# Altium schematic symbol library Microcontroller tinyAVR.SchLib: 370 symbols (part 4 of 11)
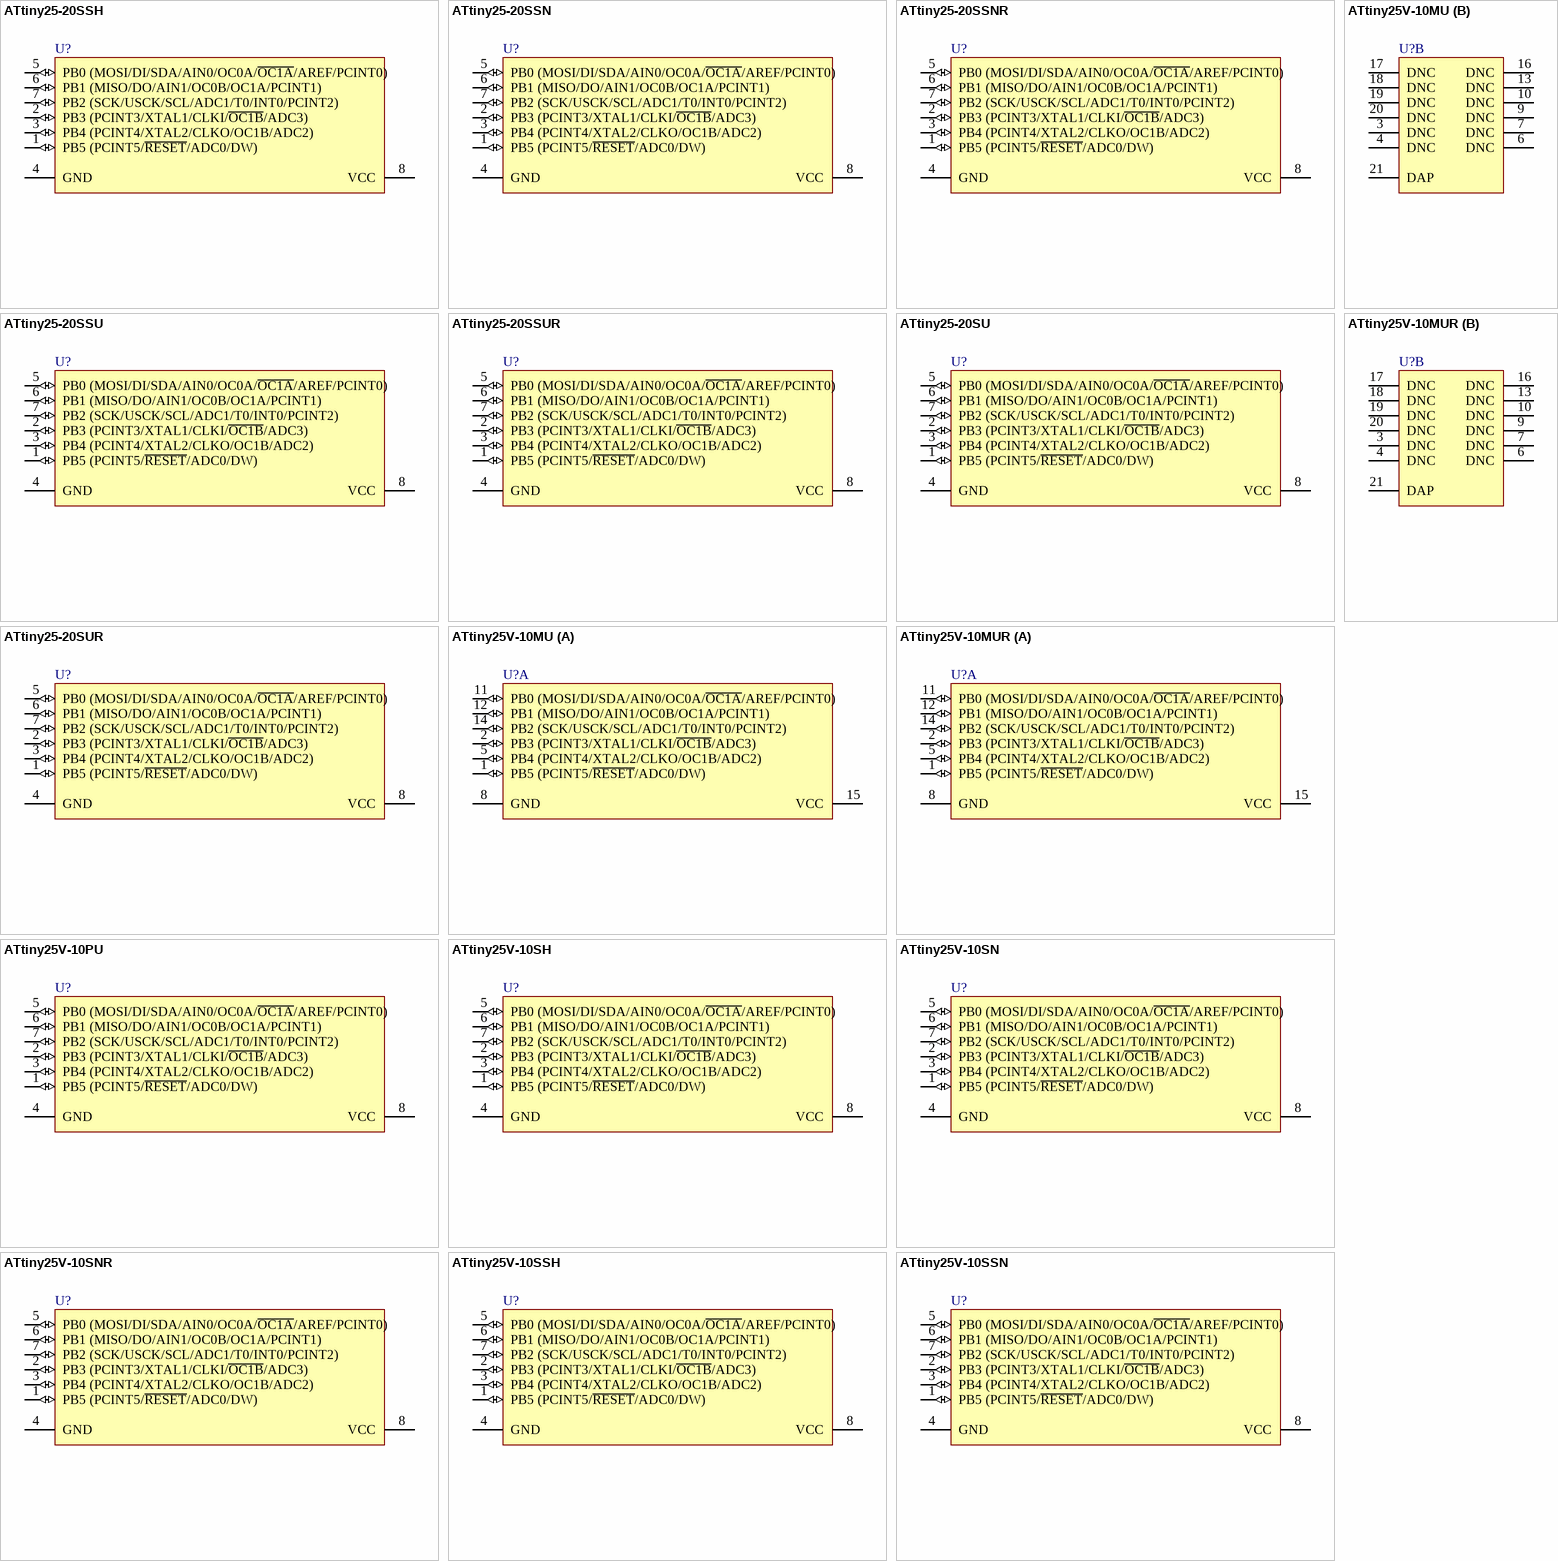
[diagram p29: symbols ATtiny25-20SSH to ATtiny25V-10SSN]

## ATtiny25-20SSU
designator U?
8-bit AVR Microcontroller, 20MHz, 2.7-5.5V, 2KB Flash, 128 Bytes EEPROM, 128 Bytes SRAM, 8-pin SOIC, Industrial Grade (-40°C to 85°C), Pb-Free; DatasheetVersion: revN, Apr-2011; PackageVersion: revA, Oct-2001; PackageReference: S8S1; PackageDescription: 8-Lead (0.150" Wide Body), Plastic Gull Wing Small Outline (JEDEC SOIC); Code_JEDEC: MS-012; Code_IPC: SOIC127P600-8; ComponentLink1Description: Manufacturer URL; ComponentLink1URL: http://www.atmel.com/; ComponentLink2Description: ATtiny25/45/85 Datasheet; ComponentLink2URL: http://www.atmel.com/dyn/resources/prod_documents/doc2586.pdf; ComponentLink3Description: ATtiny25/45/85 Summary; ComponentLink3URL: http://www.atmel.com/dyn/resources/prod_documents/2586S.pdf
footprint S8S1_N (SOIC, 8-Leads, Body 4.9x3.9mm, Pitch 1.27mm, IPC Medium Density)
footprint S8S1_L (SOIC, 8-Leads, Body 4.9x3.9mm, Pitch 1.27mm, IPC High Density)
footprint S8S1_M (SOIC, 8-Leads, Body 4.9x3.9mm, Pitch 1.27mm, IPC Low Density)
pins: 1 PB5 (PCINT5/~{RESET}/ADC0/DW) (io), 2 PB3 (PCINT3/XTAL1/CLKI/~{OC1B}/ADC3) (io), 3 PB4 (PCINT4/XTAL2/CLKO/OC1B/ADC2) (io), 4 GND (power), 5 PB0 (MOSI/DI/SDA/AIN0/OC0A/~{OC1A}/AREF/PCINT0) (io), 6 PB1 (MISO/DO/AIN1/OC0B/OC1A/PCINT1) (io), 7 PB2 (SCK/USCK/SCL/ADC1/T0/INT0/PCINT2) (io), 8 VCC (power)

## ATtiny25-20SSUR
designator U?
8-bit AVR Microcontroller, 20MHz, 2.7-5.5V, 2KB Flash, 128 Bytes EEPROM, 128 Bytes SRAM, 8-pin SOIC, Industrial Grade (-40°C to 85°C), Pb-Free, Reel; DatasheetVersion: revN, Apr-2011; PackageVersion: revA, Oct-2001; PackageReference: S8S1; PackageDescription: 8-Lead (0.150" Wide Body), Plastic Gull Wing Small Outline (JEDEC SOIC); Code_JEDEC: MS-012; Code_IPC: SOIC127P600-8; ComponentLink1Description: Manufacturer URL; ComponentLink1URL: http://www.atmel.com/; ComponentLink2Description: ATtiny25/45/85 Datasheet; ComponentLink2URL: http://www.atmel.com/dyn/resources/prod_documents/doc2586.pdf; ComponentLink3Description: ATtiny25/45/85 Summary; ComponentLink3URL: http://www.atmel.com/dyn/resources/prod_documents/2586S.pdf
footprint S8S1_N (SOIC, 8-Leads, Body 4.9x3.9mm, Pitch 1.27mm, IPC Medium Density)
footprint S8S1_L (SOIC, 8-Leads, Body 4.9x3.9mm, Pitch 1.27mm, IPC High Density)
footprint S8S1_M (SOIC, 8-Leads, Body 4.9x3.9mm, Pitch 1.27mm, IPC Low Density)
pins: 1 PB5 (PCINT5/~{RESET}/ADC0/DW) (io), 2 PB3 (PCINT3/XTAL1/CLKI/~{OC1B}/ADC3) (io), 3 PB4 (PCINT4/XTAL2/CLKO/OC1B/ADC2) (io), 4 GND (power), 5 PB0 (MOSI/DI/SDA/AIN0/OC0A/~{OC1A}/AREF/PCINT0) (io), 6 PB1 (MISO/DO/AIN1/OC0B/OC1A/PCINT1) (io), 7 PB2 (SCK/USCK/SCL/ADC1/T0/INT0/PCINT2) (io), 8 VCC (power)

## ATtiny25-20SU
designator U?
8-bit AVR Microcontroller, 20MHz, 2.7-5.5V, 2KB Flash, 128 Bytes EEPROM, 128 Bytes SRAM, 8-pin SOP, Industrial Grade (-40°C to 85°C), Pb-Free; DatasheetVersion: revN, Apr-2011; PackageVersion: revF, Apr-2008; PackageReference: 8S2; PackageDescription: 8-Lead, 0.208" Body, Plastic Small Outline Package (EIAJ); ComponentLink1Description: Manufacturer URL; ComponentLink1URL: http://www.atmel.com/; ComponentLink2Description: ATtiny25/45/85 Datasheet; ComponentLink2URL: http://www.atmel.com/dyn/resources/prod_documents/doc2586.pdf; ComponentLink3Description: ATtiny25/45/85 Summary; ComponentLink3URL: http://www.atmel.com/dyn/resources/prod_documents/2586S.pdf
footprint 8S2_N (SOP, 8-Leads, Body 5.3x5.3mm, Pitch 1.27mm, IPC Medium Density)
footprint 8S2_L (SOP, 8-Leads, Body 5.3x5.3mm, Pitch 1.27mm, IPC High Density)
footprint 8S2_M (SOP, 8-Leads, Body 5.3x5.3mm, Pitch 1.27mm, IPC Low Density)
pins: 1 PB5 (PCINT5/~{RESET}/ADC0/DW) (io), 2 PB3 (PCINT3/XTAL1/CLKI/~{OC1B}/ADC3) (io), 3 PB4 (PCINT4/XTAL2/CLKO/OC1B/ADC2) (io), 4 GND (power), 5 PB0 (MOSI/DI/SDA/AIN0/OC0A/~{OC1A}/AREF/PCINT0) (io), 6 PB1 (MISO/DO/AIN1/OC0B/OC1A/PCINT1) (io), 7 PB2 (SCK/USCK/SCL/ADC1/T0/INT0/PCINT2) (io), 8 VCC (power)

## ATtiny25-20SUR
designator U?
8-bit AVR Microcontroller, 20MHz, 2.7-5.5V, 2KB Flash, 128 Bytes EEPROM, 128 Bytes SRAM, 8-pin SOP, Industrial Grade (-40°C to 85°C), Pb-Free, Reel; DatasheetVersion: revN, Apr-2011; PackageVersion: revF, Apr-2008; PackageReference: 8S2; PackageDescription: 8-Lead, 0.208" Body, Plastic Small Outline Package (EIAJ); ComponentLink1Description: Manufacturer URL; ComponentLink1URL: http://www.atmel.com/; ComponentLink2Description: ATtiny25/45/85 Datasheet; ComponentLink2URL: http://www.atmel.com/dyn/resources/prod_documents/doc2586.pdf; ComponentLink3Description: ATtiny25/45/85 Summary; ComponentLink3URL: http://www.atmel.com/dyn/resources/prod_documents/2586S.pdf
footprint 8S2_N (SOP, 8-Leads, Body 5.3x5.3mm, Pitch 1.27mm, IPC Medium Density)
footprint 8S2_L (SOP, 8-Leads, Body 5.3x5.3mm, Pitch 1.27mm, IPC High Density)
footprint 8S2_M (SOP, 8-Leads, Body 5.3x5.3mm, Pitch 1.27mm, IPC Low Density)
pins: 1 PB5 (PCINT5/~{RESET}/ADC0/DW) (io), 2 PB3 (PCINT3/XTAL1/CLKI/~{OC1B}/ADC3) (io), 3 PB4 (PCINT4/XTAL2/CLKO/OC1B/ADC2) (io), 4 GND (power), 5 PB0 (MOSI/DI/SDA/AIN0/OC0A/~{OC1A}/AREF/PCINT0) (io), 6 PB1 (MISO/DO/AIN1/OC0B/OC1A/PCINT1) (io), 7 PB2 (SCK/USCK/SCL/ADC1/T0/INT0/PCINT2) (io), 8 VCC (power)

## ATtiny25V-10MU
designator U?
8-bit AVR Microcontroller, 10MHz, 1.8-5.5V, 2KB Flash, 128 Bytes EEPROM, 128 Bytes SRAM, 20-pin MLF, Industrial Grade (-40°C to 85°C), Pb-Free; DatasheetVersion: revN, Apr-2011; PackageVersion: revA, Oct-2004; PackageReference: 20M1; PackageDescription: 20-pad, 4 x 4 x 0.8 mm Body, Lead Pitch 0.50 mm, 2.6 mm Exposed Pad, Micro Lead Frame Package (MLF); Code_JEDEC: MO-220WGGD-5; ComponentLink1Description: Manufacturer URL; ComponentLink1URL: http://www.atmel.com/; ComponentLink2Description: ATtiny25/45/85 Datasheet; ComponentLink2URL: http://www.atmel.com/dyn/resources/prod_documents/doc2586.pdf; ComponentLink3Description: ATtiny25/45/85 Summary; ComponentLink3URL: http://www.atmel.com/dyn/resources/prod_documents/2586S.pdf
footprint 20M1_N (QFN, 20-Leads, Body 4x4mm, Pitch 0.5mm, Thermal Pad 2.7x2.7mm, IPC Medium Density)
footprint 20M1_L (QFN, 20-Leads, Body 4x4mm, Pitch 0.5mm, Thermal Pad 2.7x2.7mm, IPC High Density)
footprint 20M1_M (QFN, 20-Leads, Body 4x4mm, Pitch 0.5mm, Thermal Pad 2.7x2.7mm, IPC Low Density)
part A pins: 1 PB5 (PCINT5/~{RESET}/ADC0/DW) (io), 2 PB3 (PCINT3/XTAL1/CLKI/~{OC1B}/ADC3) (io), 5 PB4 (PCINT4/XTAL2/CLKO/OC1B/ADC2) (io), 8 GND (power), 11 PB0 (MOSI/DI/SDA/AIN0/OC0A/~{OC1A}/AREF/PCINT0) (io), 12 PB1 (MISO/DO/AIN1/OC0B/OC1A/PCINT1) (io), 14 PB2 (SCK/USCK/SCL/ADC1/T0/INT0/PCINT2) (io), 15 VCC (power)
part B pins: 3 DNC, 4 DNC, 6 DNC, 7 DNC, 9 DNC, 10 DNC, 13 DNC, 16 DNC, 17 DNC, 18 DNC, 19 DNC, 20 DNC, 21 DAP

## ATtiny25V-10MUR
designator U?
8-bit AVR Microcontroller, 10MHz, 1.8-5.5V, 2KB Flash, 128 Bytes EEPROM, 128 Bytes SRAM, 20-pin MLF, Industrial Grade (-40°C to 85°C), Pb-Free, Reel; DatasheetVersion: revN, Apr-2011; PackageVersion: revA, Oct-2004; PackageReference: 20M1; PackageDescription: 20-pad, 4 x 4 x 0.8 mm Body, Lead Pitch 0.50 mm, 2.6 mm Exposed Pad, Micro Lead Frame Package (MLF); Code_JEDEC: MO-220WGGD-5; ComponentLink1Description: Manufacturer URL; ComponentLink1URL: http://www.atmel.com/; ComponentLink2Description: ATtiny25/45/85 Datasheet; ComponentLink2URL: http://www.atmel.com/dyn/resources/prod_documents/doc2586.pdf; ComponentLink3Description: ATtiny25/45/85 Summary; ComponentLink3URL: http://www.atmel.com/dyn/resources/prod_documents/2586S.pdf
footprint 20M1_N (QFN, 20-Leads, Body 4x4mm, Pitch 0.5mm, Thermal Pad 2.7x2.7mm, IPC Medium Density)
footprint 20M1_L (QFN, 20-Leads, Body 4x4mm, Pitch 0.5mm, Thermal Pad 2.7x2.7mm, IPC High Density)
footprint 20M1_M (QFN, 20-Leads, Body 4x4mm, Pitch 0.5mm, Thermal Pad 2.7x2.7mm, IPC Low Density)
part A pins: 1 PB5 (PCINT5/~{RESET}/ADC0/DW) (io), 2 PB3 (PCINT3/XTAL1/CLKI/~{OC1B}/ADC3) (io), 5 PB4 (PCINT4/XTAL2/CLKO/OC1B/ADC2) (io), 8 GND (power), 11 PB0 (MOSI/DI/SDA/AIN0/OC0A/~{OC1A}/AREF/PCINT0) (io), 12 PB1 (MISO/DO/AIN1/OC0B/OC1A/PCINT1) (io), 14 PB2 (SCK/USCK/SCL/ADC1/T0/INT0/PCINT2) (io), 15 VCC (power)
part B pins: 3 DNC, 4 DNC, 6 DNC, 7 DNC, 9 DNC, 10 DNC, 13 DNC, 16 DNC, 17 DNC, 18 DNC, 19 DNC, 20 DNC, 21 DAP

## ATtiny25V-10PU
designator U?
8-bit AVR Microcontroller, 10MHz, 1.8-5.5V, 2KB Flash, 128 Bytes EEPROM, 128 Bytes SRAM, 8-pin PDIP, Industrial Grade (-40°C to 85°C), Pb-Free; DatasheetVersion: revN, Apr-2011; PackageVersion: revB, Jan-2002; PackageReference: 8P3; PackageDescription: 8-Lead, 0.300" Wide Body, Plastic Dual In-Line Package (PDIP); Code_JEDEC: MS-001-BA; ComponentLink1Description: Manufacturer URL; ComponentLink1URL: http://www.atmel.com/; ComponentLink2Description: ATtiny25/45/85 Datasheet; ComponentLink2URL: http://www.atmel.com/dyn/resources/prod_documents/doc2586.pdf; ComponentLink3Description: ATtiny25/45/85 Summary; ComponentLink3URL: http://www.atmel.com/dyn/resources/prod_documents/2586S.pdf
footprint 8P3 (DIP, 8-Leads, Row Spacing 7.62mm, Pitch 2.54mm, Body 9.59x6.61mm)
pins: 1 PB5 (PCINT5/~{RESET}/ADC0/DW) (io), 2 PB3 (PCINT3/XTAL1/CLKI/~{OC1B}/ADC3) (io), 3 PB4 (PCINT4/XTAL2/CLKO/OC1B/ADC2) (io), 4 GND (power), 5 PB0 (MOSI/DI/SDA/AIN0/OC0A/~{OC1A}/AREF/PCINT0) (io), 6 PB1 (MISO/DO/AIN1/OC0B/OC1A/PCINT1) (io), 7 PB2 (SCK/USCK/SCL/ADC1/T0/INT0/PCINT2) (io), 8 VCC (power)

## ATtiny25V-10SH
designator U?
8-bit AVR Microcontroller, 10MHz, 1.8-5.5V, 2KB Flash, 128 Bytes EEPROM, 128 Bytes SRAM, 8-pin SOP, Industrial Grade (-40°C to 85°C), Pb-Free; DatasheetVersion: revN, Apr-2011; PackageVersion: revF, Apr-2008; PackageReference: 8S2; PackageDescription: 8-Lead, 0.208" Body, Plastic Small Outline Package (EIAJ); ComponentLink1Description: Manufacturer URL; ComponentLink1URL: http://www.atmel.com/; ComponentLink2Description: ATtiny25/45/85 Datasheet; ComponentLink2URL: http://www.atmel.com/dyn/resources/prod_documents/doc2586.pdf; ComponentLink3Description: ATtiny25/45/85 Summary; ComponentLink3URL: http://www.atmel.com/dyn/resources/prod_documents/2586S.pdf
footprint 8S2_N (SOP, 8-Leads, Body 5.3x5.3mm, Pitch 1.27mm, IPC Medium Density)
footprint 8S2_L (SOP, 8-Leads, Body 5.3x5.3mm, Pitch 1.27mm, IPC High Density)
footprint 8S2_M (SOP, 8-Leads, Body 5.3x5.3mm, Pitch 1.27mm, IPC Low Density)
pins: 1 PB5 (PCINT5/~{RESET}/ADC0/DW) (io), 2 PB3 (PCINT3/XTAL1/CLKI/~{OC1B}/ADC3) (io), 3 PB4 (PCINT4/XTAL2/CLKO/OC1B/ADC2) (io), 4 GND (power), 5 PB0 (MOSI/DI/SDA/AIN0/OC0A/~{OC1A}/AREF/PCINT0) (io), 6 PB1 (MISO/DO/AIN1/OC0B/OC1A/PCINT1) (io), 7 PB2 (SCK/USCK/SCL/ADC1/T0/INT0/PCINT2) (io), 8 VCC (power)

## ATtiny25V-10SN
designator U?
8-bit AVR Microcontroller, 10MHz, 1.8-5.5V, 2KB Flash, 128 Bytes EEPROM, 128 Bytes SRAM, 8-pin SOP, Industrial Grade (-40°C to 105°C), Pb-Free; DatasheetVersion: revN, Apr-2011; PackageVersion: revF, Apr-2008; PackageReference: 8S2; PackageDescription: 8-Lead, 0.208" Body, Plastic Small Outline Package (EIAJ); ComponentLink1Description: Manufacturer URL; ComponentLink1URL: http://www.atmel.com/; ComponentLink2Description: ATtiny25/45/85 Datasheet; ComponentLink2URL: http://www.atmel.com/dyn/resources/prod_documents/doc2586.pdf; ComponentLink3Description: ATtiny25/45/85 Summary; ComponentLink3URL: http://www.atmel.com/dyn/resources/prod_documents/2586S.pdf
footprint 8S2_N (SOP, 8-Leads, Body 5.3x5.3mm, Pitch 1.27mm, IPC Medium Density)
footprint 8S2_L (SOP, 8-Leads, Body 5.3x5.3mm, Pitch 1.27mm, IPC High Density)
footprint 8S2_M (SOP, 8-Leads, Body 5.3x5.3mm, Pitch 1.27mm, IPC Low Density)
pins: 1 PB5 (PCINT5/~{RESET}/ADC0/DW) (io), 2 PB3 (PCINT3/XTAL1/CLKI/~{OC1B}/ADC3) (io), 3 PB4 (PCINT4/XTAL2/CLKO/OC1B/ADC2) (io), 4 GND (power), 5 PB0 (MOSI/DI/SDA/AIN0/OC0A/~{OC1A}/AREF/PCINT0) (io), 6 PB1 (MISO/DO/AIN1/OC0B/OC1A/PCINT1) (io), 7 PB2 (SCK/USCK/SCL/ADC1/T0/INT0/PCINT2) (io), 8 VCC (power)

## ATtiny25V-10SNR
designator U?
8-bit AVR Microcontroller, 10MHz, 1.8-5.5V, 2KB Flash, 128 Bytes EEPROM, 128 Bytes SRAM, 8-pin SOP, Industrial Grade (-40°C to 105°C), Pb-Free, Reel; DatasheetVersion: revN, Apr-2011; PackageVersion: revF, Apr-2008; PackageReference: 8S2; PackageDescription: 8-Lead, 0.208" Body, Plastic Small Outline Package (EIAJ); ComponentLink1Description: Manufacturer URL; ComponentLink1URL: http://www.atmel.com/; ComponentLink2Description: ATtiny25/45/85 Datasheet; ComponentLink2URL: http://www.atmel.com/dyn/resources/prod_documents/doc2586.pdf; ComponentLink3Description: ATtiny25/45/85 Summary; ComponentLink3URL: http://www.atmel.com/dyn/resources/prod_documents/2586S.pdf
footprint 8S2_N (SOP, 8-Leads, Body 5.3x5.3mm, Pitch 1.27mm, IPC Medium Density)
footprint 8S2_L (SOP, 8-Leads, Body 5.3x5.3mm, Pitch 1.27mm, IPC High Density)
footprint 8S2_M (SOP, 8-Leads, Body 5.3x5.3mm, Pitch 1.27mm, IPC Low Density)
pins: 1 PB5 (PCINT5/~{RESET}/ADC0/DW) (io), 2 PB3 (PCINT3/XTAL1/CLKI/~{OC1B}/ADC3) (io), 3 PB4 (PCINT4/XTAL2/CLKO/OC1B/ADC2) (io), 4 GND (power), 5 PB0 (MOSI/DI/SDA/AIN0/OC0A/~{OC1A}/AREF/PCINT0) (io), 6 PB1 (MISO/DO/AIN1/OC0B/OC1A/PCINT1) (io), 7 PB2 (SCK/USCK/SCL/ADC1/T0/INT0/PCINT2) (io), 8 VCC (power)

## ATtiny25V-10SSH
designator U?
8-bit AVR Microcontroller, 10MHz, 1.8-5.5V, 2KB Flash, 128 Bytes EEPROM, 128 Bytes SRAM, 8-pin SOIC, Industrial Grade (-40°C to 85°C), Pb-Free; DatasheetVersion: revN, Apr-2011; PackageVersion: revA, Oct-2001; PackageReference: S8S1; PackageDescription: 8-Lead (0.150" Wide Body), Plastic Gull Wing Small Outline (JEDEC SOIC); Code_JEDEC: MS-012; Code_IPC: SOIC127P600-8; ComponentLink1Description: Manufacturer URL; ComponentLink1URL: http://www.atmel.com/; ComponentLink2Description: ATtiny25/45/85 Datasheet; ComponentLink2URL: http://www.atmel.com/dyn/resources/prod_documents/doc2586.pdf; ComponentLink3Description: ATtiny25/45/85 Summary; ComponentLink3URL: http://www.atmel.com/dyn/resources/prod_documents/2586S.pdf
footprint S8S1_N (SOIC, 8-Leads, Body 4.9x3.9mm, Pitch 1.27mm, IPC Medium Density)
footprint S8S1_L (SOIC, 8-Leads, Body 4.9x3.9mm, Pitch 1.27mm, IPC High Density)
footprint S8S1_M (SOIC, 8-Leads, Body 4.9x3.9mm, Pitch 1.27mm, IPC Low Density)
pins: 1 PB5 (PCINT5/~{RESET}/ADC0/DW) (io), 2 PB3 (PCINT3/XTAL1/CLKI/~{OC1B}/ADC3) (io), 3 PB4 (PCINT4/XTAL2/CLKO/OC1B/ADC2) (io), 4 GND (power), 5 PB0 (MOSI/DI/SDA/AIN0/OC0A/~{OC1A}/AREF/PCINT0) (io), 6 PB1 (MISO/DO/AIN1/OC0B/OC1A/PCINT1) (io), 7 PB2 (SCK/USCK/SCL/ADC1/T0/INT0/PCINT2) (io), 8 VCC (power)

## ATtiny25V-10SSN
designator U?
8-bit AVR Microcontroller, 10MHz, 1.8-5.5V, 2KB Flash, 128 Bytes EEPROM, 128 Bytes SRAM, 8-pin SOIC, Industrial Grade (-40°C to 105°C), Pb-Free; DatasheetVersion: revN, Apr-2011; PackageVersion: revA, Oct-2001; PackageReference: S8S1; PackageDescription: 8-Lead (0.150" Wide Body), Plastic Gull Wing Small Outline (JEDEC SOIC); Code_JEDEC: MS-012; Code_IPC: SOIC127P600-8; ComponentLink1Description: Manufacturer URL; ComponentLink1URL: http://www.atmel.com/; ComponentLink2Description: ATtiny25/45/85 Datasheet; ComponentLink2URL: http://www.atmel.com/dyn/resources/prod_documents/doc2586.pdf; ComponentLink3Description: ATtiny25/45/85 Summary; ComponentLink3URL: http://www.atmel.com/dyn/resources/prod_documents/2586S.pdf
footprint S8S1_N (SOIC, 8-Leads, Body 4.9x3.9mm, Pitch 1.27mm, IPC Medium Density)
footprint S8S1_L (SOIC, 8-Leads, Body 4.9x3.9mm, Pitch 1.27mm, IPC High Density)
footprint S8S1_M (SOIC, 8-Leads, Body 4.9x3.9mm, Pitch 1.27mm, IPC Low Density)
pins: 1 PB5 (PCINT5/~{RESET}/ADC0/DW) (io), 2 PB3 (PCINT3/XTAL1/CLKI/~{OC1B}/ADC3) (io), 3 PB4 (PCINT4/XTAL2/CLKO/OC1B/ADC2) (io), 4 GND (power), 5 PB0 (MOSI/DI/SDA/AIN0/OC0A/~{OC1A}/AREF/PCINT0) (io), 6 PB1 (MISO/DO/AIN1/OC0B/OC1A/PCINT1) (io), 7 PB2 (SCK/USCK/SCL/ADC1/T0/INT0/PCINT2) (io), 8 VCC (power)

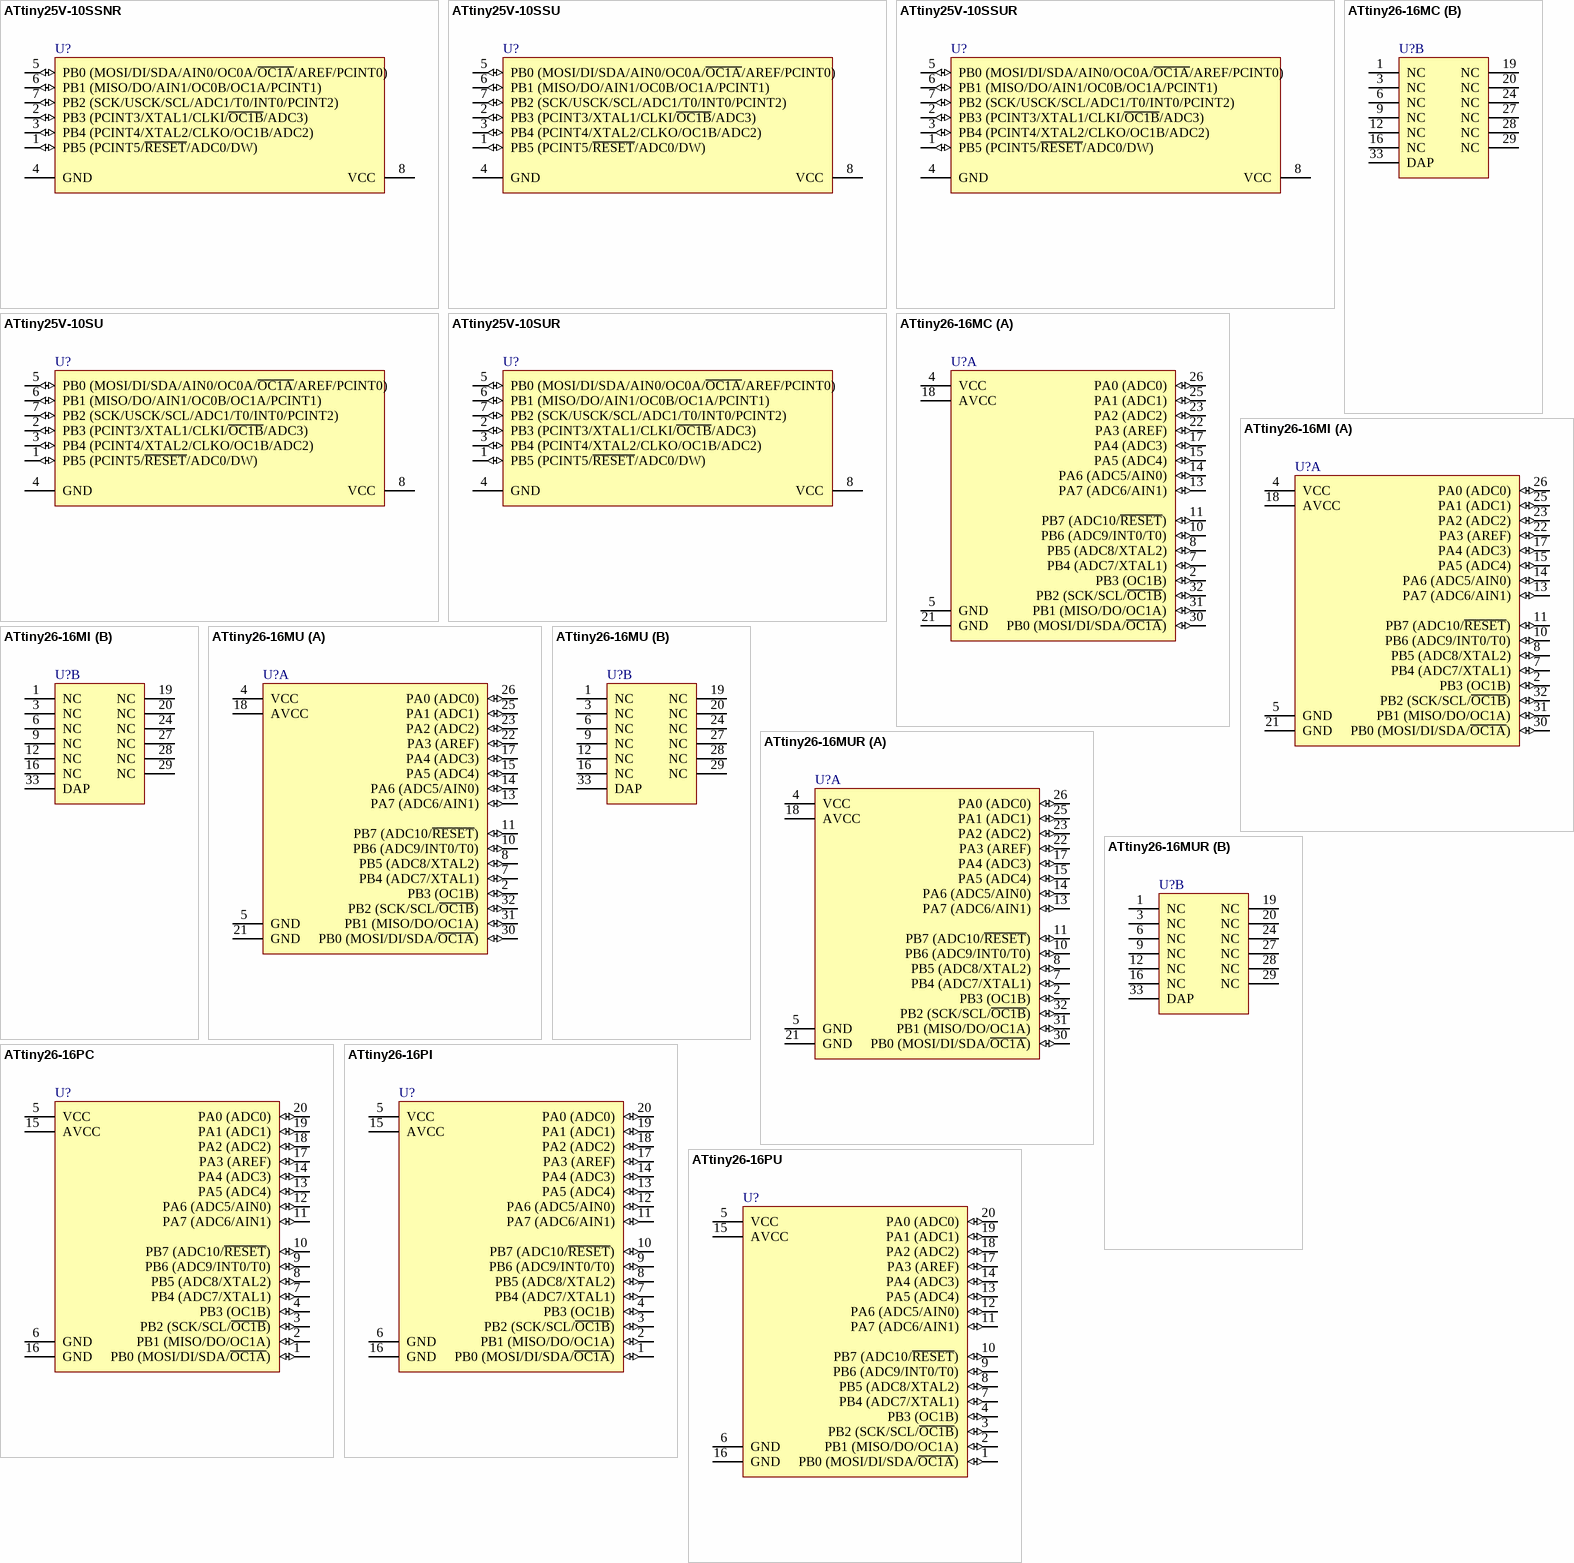
[diagram p7: symbols ATtiny25V-10SSNR to ATtiny26-16PU]

## ATtiny25V-10SSNR
designator U?
8-bit AVR Microcontroller, 10MHz, 1.8-5.5V, 2KB Flash, 128 Bytes EEPROM, 128 Bytes SRAM, 8-pin SOIC, Industrial Grade (-40°C to 105°C), Pb-Free, Reel; DatasheetVersion: revN, Apr-2011; PackageVersion: revA, Oct-2001; PackageReference: S8S1; PackageDescription: 8-Lead (0.150" Wide Body), Plastic Gull Wing Small Outline (JEDEC SOIC); Code_JEDEC: MS-012; Code_IPC: SOIC127P600-8; ComponentLink1Description: Manufacturer URL; ComponentLink1URL: http://www.atmel.com/; ComponentLink2Description: ATtiny25/45/85 Datasheet; ComponentLink2URL: http://www.atmel.com/dyn/resources/prod_documents/doc2586.pdf; ComponentLink3Description: ATtiny25/45/85 Summary; ComponentLink3URL: http://www.atmel.com/dyn/resources/prod_documents/2586S.pdf
footprint S8S1_N (SOIC, 8-Leads, Body 4.9x3.9mm, Pitch 1.27mm, IPC Medium Density)
footprint S8S1_L (SOIC, 8-Leads, Body 4.9x3.9mm, Pitch 1.27mm, IPC High Density)
footprint S8S1_M (SOIC, 8-Leads, Body 4.9x3.9mm, Pitch 1.27mm, IPC Low Density)
pins: 1 PB5 (PCINT5/~{RESET}/ADC0/DW) (io), 2 PB3 (PCINT3/XTAL1/CLKI/~{OC1B}/ADC3) (io), 3 PB4 (PCINT4/XTAL2/CLKO/OC1B/ADC2) (io), 4 GND (power), 5 PB0 (MOSI/DI/SDA/AIN0/OC0A/~{OC1A}/AREF/PCINT0) (io), 6 PB1 (MISO/DO/AIN1/OC0B/OC1A/PCINT1) (io), 7 PB2 (SCK/USCK/SCL/ADC1/T0/INT0/PCINT2) (io), 8 VCC (power)

## ATtiny25V-10SSU
designator U?
8-bit AVR Microcontroller, 10MHz, 1.8-5.5V, 2KB Flash, 128 Bytes EEPROM, 128 Bytes SRAM, 8-pin SOIC, Industrial Grade (-40°C to 85°C), Pb-Free; DatasheetVersion: revN, Apr-2011; PackageVersion: revA, Oct-2001; PackageReference: S8S1; PackageDescription: 8-Lead (0.150" Wide Body), Plastic Gull Wing Small Outline (JEDEC SOIC); Code_JEDEC: MS-012; Code_IPC: SOIC127P600-8; ComponentLink1Description: Manufacturer URL; ComponentLink1URL: http://www.atmel.com/; ComponentLink2Description: ATtiny25/45/85 Datasheet; ComponentLink2URL: http://www.atmel.com/dyn/resources/prod_documents/doc2586.pdf; ComponentLink3Description: ATtiny25/45/85 Summary; ComponentLink3URL: http://www.atmel.com/dyn/resources/prod_documents/2586S.pdf
footprint S8S1_N (SOIC, 8-Leads, Body 4.9x3.9mm, Pitch 1.27mm, IPC Medium Density)
footprint S8S1_L (SOIC, 8-Leads, Body 4.9x3.9mm, Pitch 1.27mm, IPC High Density)
footprint S8S1_M (SOIC, 8-Leads, Body 4.9x3.9mm, Pitch 1.27mm, IPC Low Density)
pins: 1 PB5 (PCINT5/~{RESET}/ADC0/DW) (io), 2 PB3 (PCINT3/XTAL1/CLKI/~{OC1B}/ADC3) (io), 3 PB4 (PCINT4/XTAL2/CLKO/OC1B/ADC2) (io), 4 GND (power), 5 PB0 (MOSI/DI/SDA/AIN0/OC0A/~{OC1A}/AREF/PCINT0) (io), 6 PB1 (MISO/DO/AIN1/OC0B/OC1A/PCINT1) (io), 7 PB2 (SCK/USCK/SCL/ADC1/T0/INT0/PCINT2) (io), 8 VCC (power)

## ATtiny25V-10SSUR
designator U?
8-bit AVR Microcontroller, 10MHz, 1.8-5.5V, 2KB Flash, 128 Bytes EEPROM, 128 Bytes SRAM, 8-pin SOIC, Industrial Grade (-40°C to 85°C), Pb-Free, Reel; DatasheetVersion: revN, Apr-2011; PackageVersion: revA, Oct-2001; PackageReference: S8S1; PackageDescription: 8-Lead (0.150" Wide Body), Plastic Gull Wing Small Outline (JEDEC SOIC); Code_JEDEC: MS-012; Code_IPC: SOIC127P600-8; ComponentLink1Description: Manufacturer URL; ComponentLink1URL: http://www.atmel.com/; ComponentLink2Description: ATtiny25/45/85 Datasheet; ComponentLink2URL: http://www.atmel.com/dyn/resources/prod_documents/doc2586.pdf; ComponentLink3Description: ATtiny25/45/85 Summary; ComponentLink3URL: http://www.atmel.com/dyn/resources/prod_documents/2586S.pdf
footprint S8S1_N (SOIC, 8-Leads, Body 4.9x3.9mm, Pitch 1.27mm, IPC Medium Density)
footprint S8S1_L (SOIC, 8-Leads, Body 4.9x3.9mm, Pitch 1.27mm, IPC High Density)
footprint S8S1_M (SOIC, 8-Leads, Body 4.9x3.9mm, Pitch 1.27mm, IPC Low Density)
pins: 1 PB5 (PCINT5/~{RESET}/ADC0/DW) (io), 2 PB3 (PCINT3/XTAL1/CLKI/~{OC1B}/ADC3) (io), 3 PB4 (PCINT4/XTAL2/CLKO/OC1B/ADC2) (io), 4 GND (power), 5 PB0 (MOSI/DI/SDA/AIN0/OC0A/~{OC1A}/AREF/PCINT0) (io), 6 PB1 (MISO/DO/AIN1/OC0B/OC1A/PCINT1) (io), 7 PB2 (SCK/USCK/SCL/ADC1/T0/INT0/PCINT2) (io), 8 VCC (power)

## ATtiny25V-10SU
designator U?
8-bit AVR Microcontroller, 10MHz, 1.8-5.5V, 2KB Flash, 128 Bytes EEPROM, 128 Bytes SRAM, 8-pin SOP, Industrial Grade (-40°C to 85°C), Pb-Free; DatasheetVersion: revN, Apr-2011; PackageVersion: revF, Apr-2008; PackageReference: 8S2; PackageDescription: 8-Lead, 0.208" Body, Plastic Small Outline Package (EIAJ); ComponentLink1Description: Manufacturer URL; ComponentLink1URL: http://www.atmel.com/; ComponentLink2Description: ATtiny25/45/85 Datasheet; ComponentLink2URL: http://www.atmel.com/dyn/resources/prod_documents/doc2586.pdf; ComponentLink3Description: ATtiny25/45/85 Summary; ComponentLink3URL: http://www.atmel.com/dyn/resources/prod_documents/2586S.pdf
footprint 8S2_N (SOP, 8-Leads, Body 5.3x5.3mm, Pitch 1.27mm, IPC Medium Density)
footprint 8S2_L (SOP, 8-Leads, Body 5.3x5.3mm, Pitch 1.27mm, IPC High Density)
footprint 8S2_M (SOP, 8-Leads, Body 5.3x5.3mm, Pitch 1.27mm, IPC Low Density)
pins: 1 PB5 (PCINT5/~{RESET}/ADC0/DW) (io), 2 PB3 (PCINT3/XTAL1/CLKI/~{OC1B}/ADC3) (io), 3 PB4 (PCINT4/XTAL2/CLKO/OC1B/ADC2) (io), 4 GND (power), 5 PB0 (MOSI/DI/SDA/AIN0/OC0A/~{OC1A}/AREF/PCINT0) (io), 6 PB1 (MISO/DO/AIN1/OC0B/OC1A/PCINT1) (io), 7 PB2 (SCK/USCK/SCL/ADC1/T0/INT0/PCINT2) (io), 8 VCC (power)

## ATtiny25V-10SUR
designator U?
8-bit AVR Microcontroller, 10MHz, 1.8-5.5V, 2KB Flash, 128 Bytes EEPROM, 128 Bytes SRAM, 8-pin SOP, Industrial Grade (-40°C to 85°C), Pb-Free, Reel; DatasheetVersion: revN, Apr-2011; PackageVersion: revF, Apr-2008; PackageReference: 8S2; PackageDescription: 8-Lead, 0.208" Body, Plastic Small Outline Package (EIAJ); ComponentLink1Description: Manufacturer URL; ComponentLink1URL: http://www.atmel.com/; ComponentLink2Description: ATtiny25/45/85 Datasheet; ComponentLink2URL: http://www.atmel.com/dyn/resources/prod_documents/doc2586.pdf; ComponentLink3Description: ATtiny25/45/85 Summary; ComponentLink3URL: http://www.atmel.com/dyn/resources/prod_documents/2586S.pdf
footprint 8S2_N (SOP, 8-Leads, Body 5.3x5.3mm, Pitch 1.27mm, IPC Medium Density)
footprint 8S2_L (SOP, 8-Leads, Body 5.3x5.3mm, Pitch 1.27mm, IPC High Density)
footprint 8S2_M (SOP, 8-Leads, Body 5.3x5.3mm, Pitch 1.27mm, IPC Low Density)
pins: 1 PB5 (PCINT5/~{RESET}/ADC0/DW) (io), 2 PB3 (PCINT3/XTAL1/CLKI/~{OC1B}/ADC3) (io), 3 PB4 (PCINT4/XTAL2/CLKO/OC1B/ADC2) (io), 4 GND (power), 5 PB0 (MOSI/DI/SDA/AIN0/OC0A/~{OC1A}/AREF/PCINT0) (io), 6 PB1 (MISO/DO/AIN1/OC0B/OC1A/PCINT1) (io), 7 PB2 (SCK/USCK/SCL/ADC1/T0/INT0/PCINT2) (io), 8 VCC (power)

## ATtiny26-16MC
designator U?
8-bit AVR Microcontroller, 4.5-5.5V, 2KB Flash, 128 Bytes EEPROM, 128 Bytes SRAM, 32-pin MLF, Commercial Grade (0°C to 70°C); DatasheetVersion: revJ, Jun-2007; PackageVersion: revE, May-2006; PackageReference: 32M1-A; PackageDescription: 32-Pin Micro Lead Frame Package (MLF),  5 x 5 x 1.0 mm Body, Pitch 0.50 mm, 3.10mm Exposed Pad; Code_JEDEC: MO-220-VHHD-2; ComponentLink1Description: Manufacturer URL; ComponentLink1URL: http://www.atmel.com/
footprint 32M1-A_N (QFN, 32-Leads, Body 5x5mm, Pitch 0.5mm, Thermal Pad 3.3x3.3mm, IPC Medium Density)
footprint 32M1-A_L (QFN, 32-Leads, Body 5x5mm, Pitch 0.5mm, Thermal Pad 3.3x3.3mm, IPC High Density)
footprint 32M1-A_M (QFN, 32-Leads, Body 5x5mm, Pitch 0.5mm, Thermal Pad 3.3x3.3mm, IPC Low Density)
part A pins: 2 PB3 (OC1B) (io), 4 VCC (power), 5 GND (power), 7 PB4 (ADC7/XTAL1) (io), 8 PB5 (ADC8/XTAL2) (io), 10 PB6 (ADC9/INT0/T0) (io), 11 PB7 (ADC10/~{RESET}) (io), 13 PA7 (ADC6/AIN1) (io), 14 PA6 (ADC5/AIN0) (io), 15 PA5 (ADC4) (io), 17 PA4 (ADC3) (io), 18 AVCC (power), 21 GND (power), 22 PA3 (AREF) (io), 23 PA2 (ADC2) (io), 25 PA1 (ADC1) (io), 26 PA0 (ADC0) (io), 30 PB0 (MOSI/DI/SDA/~{OC1A}) (io), 31 PB1 (MISO/DO/OC1A) (io), 32 PB2 (SCK/SCL/~{OC1B}) (io)
part B pins: 1 NC, 3 NC, 6 NC, 9 NC, 12 NC, 16 NC, 19 NC, 20 NC, 24 NC, 27 NC, 28 NC, 29 NC, 33 DAP (power)

## ATtiny26-16MI
designator U?
8-bit AVR Microcontroller, 4.5-5.5V, 2KB Flash, 128 Bytes EEPROM, 128 Bytes SRAM, 32-pin MLF, Industrial Grade (-40°C to 85°C); DatasheetVersion: revJ, Jun-2007; PackageVersion: revE, May-2006; PackageReference: 32M1-A; PackageDescription: 32-Pin Micro Lead Frame Package (MLF),  5 x 5 x 1.0 mm Body, Pitch 0.50 mm, 3.10mm Exposed Pad; Code_JEDEC: MO-220-VHHD-2; ComponentLink1Description: Manufacturer URL; ComponentLink1URL: http://www.atmel.com/
footprint 32M1-A_N (QFN, 32-Leads, Body 5x5mm, Pitch 0.5mm, Thermal Pad 3.3x3.3mm, IPC Medium Density)
footprint 32M1-A_L (QFN, 32-Leads, Body 5x5mm, Pitch 0.5mm, Thermal Pad 3.3x3.3mm, IPC High Density)
footprint 32M1-A_M (QFN, 32-Leads, Body 5x5mm, Pitch 0.5mm, Thermal Pad 3.3x3.3mm, IPC Low Density)
part A pins: 2 PB3 (OC1B) (io), 4 VCC (power), 5 GND (power), 7 PB4 (ADC7/XTAL1) (io), 8 PB5 (ADC8/XTAL2) (io), 10 PB6 (ADC9/INT0/T0) (io), 11 PB7 (ADC10/~{RESET}) (io), 13 PA7 (ADC6/AIN1) (io), 14 PA6 (ADC5/AIN0) (io), 15 PA5 (ADC4) (io), 17 PA4 (ADC3) (io), 18 AVCC (power), 21 GND (power), 22 PA3 (AREF) (io), 23 PA2 (ADC2) (io), 25 PA1 (ADC1) (io), 26 PA0 (ADC0) (io), 30 PB0 (MOSI/DI/SDA/~{OC1A}) (io), 31 PB1 (MISO/DO/OC1A) (io), 32 PB2 (SCK/SCL/~{OC1B}) (io)
part B pins: 1 NC, 3 NC, 6 NC, 9 NC, 12 NC, 16 NC, 19 NC, 20 NC, 24 NC, 27 NC, 28 NC, 29 NC, 33 DAP (power)

## ATtiny26-16MU
designator U?
8-bit AVR Microcontroller, 4.5-5.5V, 16MHz, 2KB Flash, 128 Bytes EEPROM, 128 Bytes SRAM, 32-pin MLF, Industrial Grade (-40°C to 85°C), Pb-Free; DatasheetVersion: revK, Aug-2010; PackageVersion: revE, May-2006; PackageReference: 32M1-A; PackageDescription: 32-Pin Micro Lead Frame Package (MLF),  5 x 5 x 1.0 mm Body, Pitch 0.50 mm, 3.10mm Exposed Pad; Code_JEDEC: MO-220-VHHD-2; ComponentLink1Description: Manufacturer URL; ComponentLink1URL: http://www.atmel.com/; ComponentLink2Description: ATtiny26(L) Datasheet; ComponentLink2URL: http://www.atmel.com/dyn/resources/prod_documents/doc1477.pdf; ComponentLink3Description: ATtiny26(L) Summary; ComponentLink3URL: http://www.atmel.com/dyn/resources/prod_documents/1477S.pdf
footprint 32M1-A_N (QFN, 32-Leads, Body 5x5mm, Pitch 0.5mm, Thermal Pad 3.3x3.3mm, IPC Medium Density)
footprint 32M1-A_L (QFN, 32-Leads, Body 5x5mm, Pitch 0.5mm, Thermal Pad 3.3x3.3mm, IPC High Density)
footprint 32M1-A_M (QFN, 32-Leads, Body 5x5mm, Pitch 0.5mm, Thermal Pad 3.3x3.3mm, IPC Low Density)
part A pins: 2 PB3 (OC1B) (io), 4 VCC (power), 5 GND (power), 7 PB4 (ADC7/XTAL1) (io), 8 PB5 (ADC8/XTAL2) (io), 10 PB6 (ADC9/INT0/T0) (io), 11 PB7 (ADC10/~{RESET}) (io), 13 PA7 (ADC6/AIN1) (io), 14 PA6 (ADC5/AIN0) (io), 15 PA5 (ADC4) (io), 17 PA4 (ADC3) (io), 18 AVCC (power), 21 GND (power), 22 PA3 (AREF) (io), 23 PA2 (ADC2) (io), 25 PA1 (ADC1) (io), 26 PA0 (ADC0) (io), 30 PB0 (MOSI/DI/SDA/~{OC1A}) (io), 31 PB1 (MISO/DO/OC1A) (io), 32 PB2 (SCK/SCL/~{OC1B}) (io)
part B pins: 1 NC, 3 NC, 6 NC, 9 NC, 12 NC, 16 NC, 19 NC, 20 NC, 24 NC, 27 NC, 28 NC, 29 NC, 33 DAP (power)

## ATtiny26-16MUR
designator U?
8-bit AVR Microcontroller, 4.5-5.5V, 16MHz, 2KB Flash, 128 Bytes EEPROM, 128 Bytes SRAM, 32-pin MLF, Industrial Grade (-40°C to 85°C), Pb-Free, Reel; DatasheetVersion: revK, Aug-2010; PackageVersion: revE, May-2006; PackageReference: 32M1-A; PackageDescription: 32-Pin Micro Lead Frame Package (MLF),  5 x 5 x 1.0 mm Body, Pitch 0.50 mm, 3.10mm Exposed Pad; Code_JEDEC: MO-220-VHHD-2; ComponentLink1Description: Manufacturer URL; ComponentLink1URL: http://www.atmel.com/; ComponentLink2Description: ATtiny26(L) Datasheet; ComponentLink2URL: http://www.atmel.com/dyn/resources/prod_documents/doc1477.pdf; ComponentLink3Description: ATtiny26(L) Summary; ComponentLink3URL: http://www.atmel.com/dyn/resources/prod_documents/1477S.pdf
footprint 32M1-A_N (QFN, 32-Leads, Body 5x5mm, Pitch 0.5mm, Thermal Pad 3.3x3.3mm, IPC Medium Density)
footprint 32M1-A_L (QFN, 32-Leads, Body 5x5mm, Pitch 0.5mm, Thermal Pad 3.3x3.3mm, IPC High Density)
footprint 32M1-A_M (QFN, 32-Leads, Body 5x5mm, Pitch 0.5mm, Thermal Pad 3.3x3.3mm, IPC Low Density)
part A pins: 2 PB3 (OC1B) (io), 4 VCC (power), 5 GND (power), 7 PB4 (ADC7/XTAL1) (io), 8 PB5 (ADC8/XTAL2) (io), 10 PB6 (ADC9/INT0/T0) (io), 11 PB7 (ADC10/~{RESET}) (io), 13 PA7 (ADC6/AIN1) (io), 14 PA6 (ADC5/AIN0) (io), 15 PA5 (ADC4) (io), 17 PA4 (ADC3) (io), 18 AVCC (power), 21 GND (power), 22 PA3 (AREF) (io), 23 PA2 (ADC2) (io), 25 PA1 (ADC1) (io), 26 PA0 (ADC0) (io), 30 PB0 (MOSI/DI/SDA/~{OC1A}) (io), 31 PB1 (MISO/DO/OC1A) (io), 32 PB2 (SCK/SCL/~{OC1B}) (io)
part B pins: 1 NC, 3 NC, 6 NC, 9 NC, 12 NC, 16 NC, 19 NC, 20 NC, 24 NC, 27 NC, 28 NC, 29 NC, 33 DAP (power)

## ATtiny26-16PC
designator U?
8-bit AVR Microcontroller, 4.5-5.5V, 2KB Flash, 128 Bytes EEPROM, 128 Bytes SRAM, 20-pin PDIP, Commercial Grade (0°C to 70°C); DatasheetVersion: revJ, Jun-2007; PackageVersion: revD, Oct-2010; PackageReference: 20P3; PackageDescription: 20-lead (0.300"/7.62mm Wide) Plastic Dual Inline Package (PDIP); Code_JEDEC: MS-001-AD; ComponentLink1Description: Manufacturer URL; ComponentLink1URL: http://www.atmel.com/
footprint 20P3 (DIP, 20-Leads, Row Spacing 7.62mm, Pitch 2.54mm, Body 25.9x6.61mm)
pins: 1 PB0 (MOSI/DI/SDA/~{OC1A}) (io), 2 PB1 (MISO/DO/OC1A) (io), 3 PB2 (SCK/SCL/~{OC1B}) (io), 4 PB3 (OC1B) (io), 5 VCC (power), 6 GND (power), 7 PB4 (ADC7/XTAL1) (io), 8 PB5 (ADC8/XTAL2) (io), 9 PB6 (ADC9/INT0/T0) (io), 10 PB7 (ADC10/~{RESET}) (io), 11 PA7 (ADC6/AIN1) (io), 12 PA6 (ADC5/AIN0) (io), 13 PA5 (ADC4) (io), 14 PA4 (ADC3) (io), 15 AVCC (power), 16 GND (power), 17 PA3 (AREF) (io), 18 PA2 (ADC2) (io), 19 PA1 (ADC1) (io), 20 PA0 (ADC0) (io)

## ATtiny26-16PI
designator U?
8-bit AVR Microcontroller, 4.5-5.5V, 2KB Flash, 128 Bytes EEPROM, 128 Bytes SRAM, 20-pin PDIP, Industrial Grade (-40°C to 85°C); DatasheetVersion: revJ, Jun-2007; PackageVersion: revD, Oct-2010; PackageReference: 20P3; PackageDescription: 20-lead (0.300"/7.62mm Wide) Plastic Dual Inline Package (PDIP); Code_JEDEC: MS-001-AD; ComponentLink1Description: Manufacturer URL; ComponentLink1URL: http://www.atmel.com/
footprint 20P3 (DIP, 20-Leads, Row Spacing 7.62mm, Pitch 2.54mm, Body 25.9x6.61mm)
pins: 1 PB0 (MOSI/DI/SDA/~{OC1A}) (io), 2 PB1 (MISO/DO/OC1A) (io), 3 PB2 (SCK/SCL/~{OC1B}) (io), 4 PB3 (OC1B) (io), 5 VCC (power), 6 GND (power), 7 PB4 (ADC7/XTAL1) (io), 8 PB5 (ADC8/XTAL2) (io), 9 PB6 (ADC9/INT0/T0) (io), 10 PB7 (ADC10/~{RESET}) (io), 11 PA7 (ADC6/AIN1) (io), 12 PA6 (ADC5/AIN0) (io), 13 PA5 (ADC4) (io), 14 PA4 (ADC3) (io), 15 AVCC (power), 16 GND (power), 17 PA3 (AREF) (io), 18 PA2 (ADC2) (io), 19 PA1 (ADC1) (io), 20 PA0 (ADC0) (io)

## ATtiny26-16PU
designator U?
8-bit AVR Microcontroller, 4.5-5.5V, 16MHz, 2KB Flash, 128 Bytes EEPROM, 128 Bytes SRAM, 20-pin PDIP, Industrial Grade (-40°C to 85°C), Pb-Free; DatasheetVersion: revK, Aug-2010; PackageVersion: revD, Oct-2010; PackageReference: 20P3; PackageDescription: 20-lead (0.300"/7.62mm Wide) Plastic Dual Inline Package (PDIP); Code_JEDEC: MS-001-AD; ComponentLink1Description: Manufacturer URL; ComponentLink1URL: http://www.atmel.com/; ComponentLink2Description: ATtiny26(L) Datasheet; ComponentLink2URL: http://www.atmel.com/dyn/resources/prod_documents/doc1477.pdf; ComponentLink3Description: ATtiny26(L) Summary; ComponentLink3URL: http://www.atmel.com/dyn/resources/prod_documents/1477S.pdf
footprint 20P3 (DIP, 20-Leads, Row Spacing 7.62mm, Pitch 2.54mm, Body 25.9x6.61mm)
pins: 1 PB0 (MOSI/DI/SDA/~{OC1A}) (io), 2 PB1 (MISO/DO/OC1A) (io), 3 PB2 (SCK/SCL/~{OC1B}) (io), 4 PB3 (OC1B) (io), 5 VCC (power), 6 GND (power), 7 PB4 (ADC7/XTAL1) (io), 8 PB5 (ADC8/XTAL2) (io), 9 PB6 (ADC9/INT0/T0) (io), 10 PB7 (ADC10/~{RESET}) (io), 11 PA7 (ADC6/AIN1) (io), 12 PA6 (ADC5/AIN0) (io), 13 PA5 (ADC4) (io), 14 PA4 (ADC3) (io), 15 AVCC (power), 16 GND (power), 17 PA3 (AREF) (io), 18 PA2 (ADC2) (io), 19 PA1 (ADC1) (io), 20 PA0 (ADC0) (io)

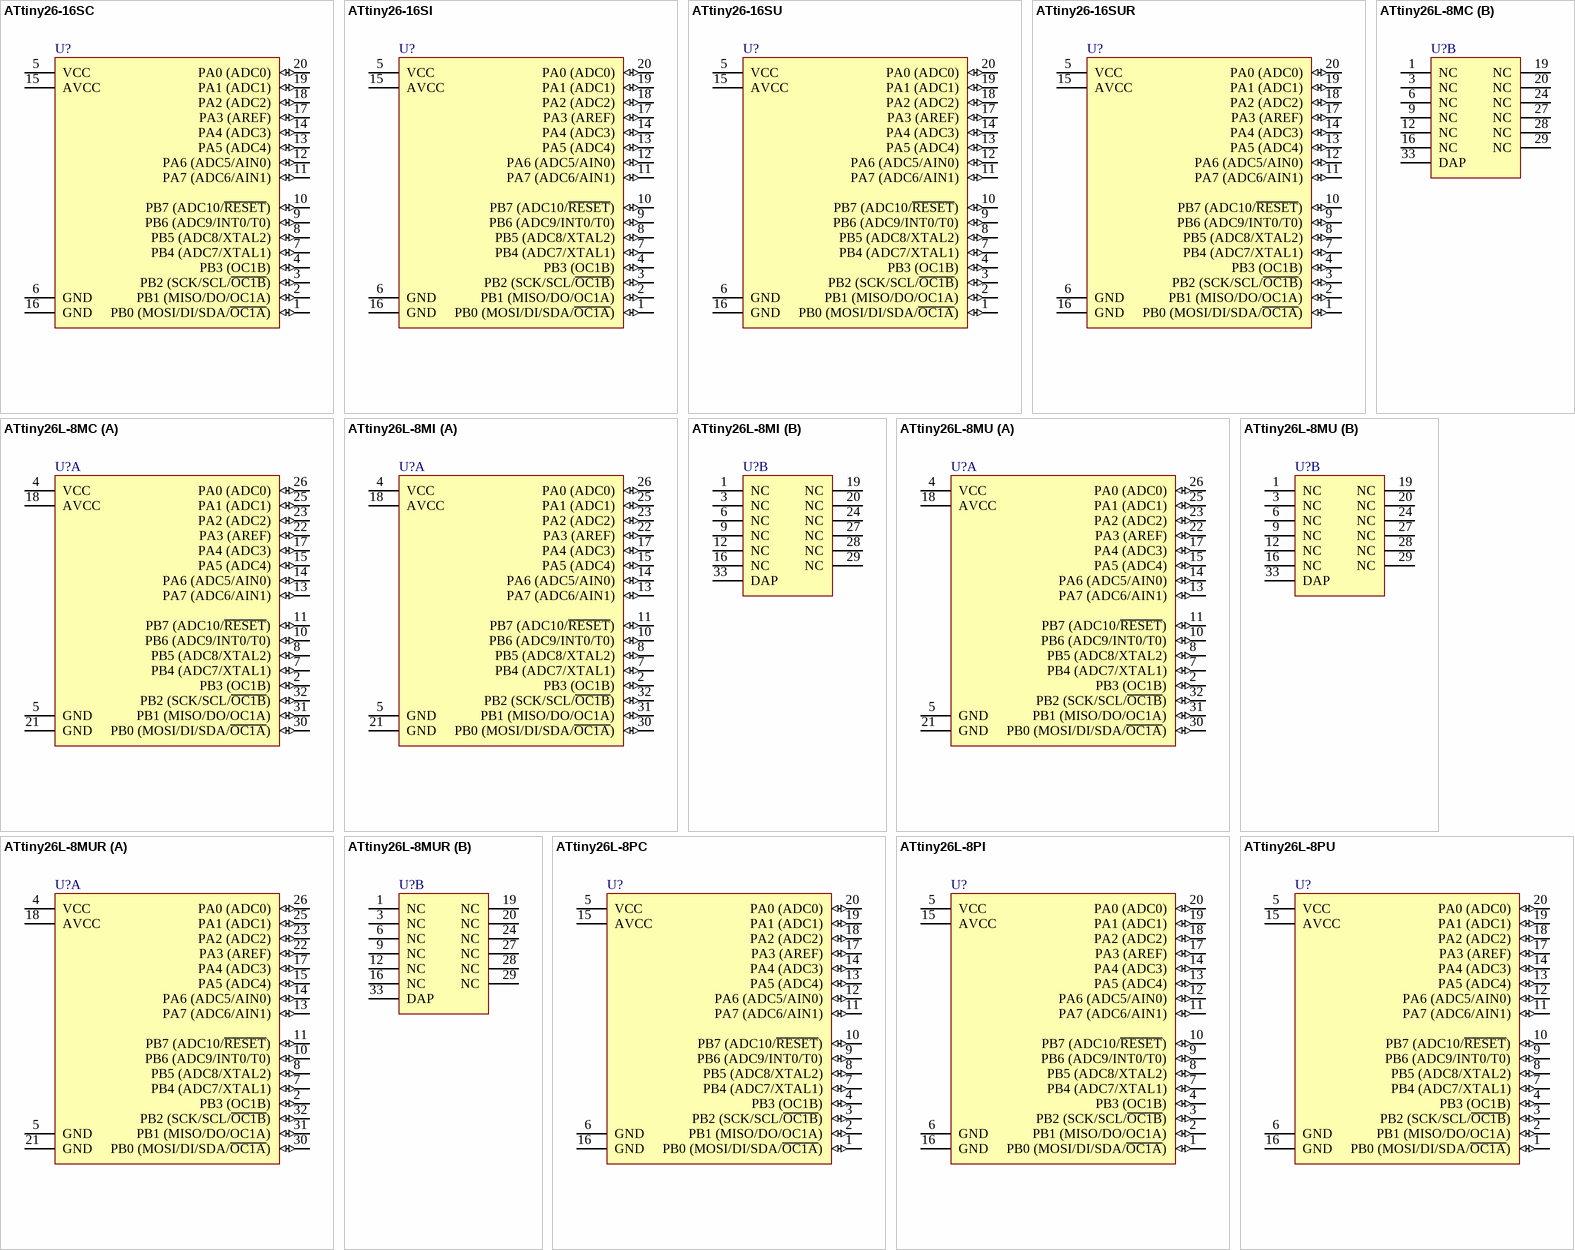
[diagram p8: symbols ATtiny26-16SC to ATtiny26L-8PU]

## ATtiny26-16SC
designator U?
8-bit AVR Microcontroller, 4.5-5.5V, 2KB Flash, 128 Bytes EEPROM, 128 Bytes SRAM, 20-pin SOIC, Commercial Grade (0°C to 70°C); DatasheetVersion: revJ, Jun-2007; PackageVersion: revB, Nov-2006; PackageReference: 20S2; PackageDescription: 20-lead, 0.300" Wide Body, Plastic Gull Wing Small Outline Package (SOIC); Code_JEDEC: MS-013-AC; Code_IPC: SOIC127P1030-20; ComponentLink1Description: Manufacturer URL; ComponentLink1URL: http://www.atmel.com/
footprint 20S2_N (SOIC, 20-Leads, Body 12.8x7.5mm, Pitch 1.27mm, IPC Medium Density)
footprint 20S2_L (SOIC, 20-Leads, Body 12.8x7.5mm, Pitch 1.27mm, IPC High Density)
footprint 20S2_M (SOIC, 20-Leads, Body 12.8x7.5mm, Pitch 1.27mm, IPC Low Density)
pins: 1 PB0 (MOSI/DI/SDA/~{OC1A}) (io), 2 PB1 (MISO/DO/OC1A) (io), 3 PB2 (SCK/SCL/~{OC1B}) (io), 4 PB3 (OC1B) (io), 5 VCC (power), 6 GND (power), 7 PB4 (ADC7/XTAL1) (io), 8 PB5 (ADC8/XTAL2) (io), 9 PB6 (ADC9/INT0/T0) (io), 10 PB7 (ADC10/~{RESET}) (io), 11 PA7 (ADC6/AIN1) (io), 12 PA6 (ADC5/AIN0) (io), 13 PA5 (ADC4) (io), 14 PA4 (ADC3) (io), 15 AVCC (power), 16 GND (power), 17 PA3 (AREF) (io), 18 PA2 (ADC2) (io), 19 PA1 (ADC1) (io), 20 PA0 (ADC0) (io)

## ATtiny26-16SI
designator U?
8-bit AVR Microcontroller, 4.5-5.5V, 2KB Flash, 128 Bytes EEPROM, 128 Bytes SRAM, 20-pin SOIC, Industrial Grade (-40°C to 85°C); DatasheetVersion: revJ, Jun-2007; PackageVersion: revB, Nov-2006; PackageReference: 20S2; PackageDescription: 20-lead, 0.300" Wide Body, Plastic Gull Wing Small Outline Package (SOIC); Code_JEDEC: MS-013-AC; Code_IPC: SOIC127P1030-20; ComponentLink1Description: Manufacturer URL; ComponentLink1URL: http://www.atmel.com/
footprint 20S2_N (SOIC, 20-Leads, Body 12.8x7.5mm, Pitch 1.27mm, IPC Medium Density)
footprint 20S2_L (SOIC, 20-Leads, Body 12.8x7.5mm, Pitch 1.27mm, IPC High Density)
footprint 20S2_M (SOIC, 20-Leads, Body 12.8x7.5mm, Pitch 1.27mm, IPC Low Density)
pins: 1 PB0 (MOSI/DI/SDA/~{OC1A}) (io), 2 PB1 (MISO/DO/OC1A) (io), 3 PB2 (SCK/SCL/~{OC1B}) (io), 4 PB3 (OC1B) (io), 5 VCC (power), 6 GND (power), 7 PB4 (ADC7/XTAL1) (io), 8 PB5 (ADC8/XTAL2) (io), 9 PB6 (ADC9/INT0/T0) (io), 10 PB7 (ADC10/~{RESET}) (io), 11 PA7 (ADC6/AIN1) (io), 12 PA6 (ADC5/AIN0) (io), 13 PA5 (ADC4) (io), 14 PA4 (ADC3) (io), 15 AVCC (power), 16 GND (power), 17 PA3 (AREF) (io), 18 PA2 (ADC2) (io), 19 PA1 (ADC1) (io), 20 PA0 (ADC0) (io)

## ATtiny26-16SU
designator U?
8-bit AVR Microcontroller, 4.5-5.5V, 16MHz, 2KB Flash, 128 Bytes EEPROM, 128 Bytes SRAM, 20-pin SOIC, Industrial Grade (-40°C to 85°C), Pb-Free; DatasheetVersion: revK, Aug-2010; PackageVersion: revB, Nov-2006; PackageReference: 20S2; PackageDescription: 20-lead, 0.300" Wide Body, Plastic Gull Wing Small Outline Package (SOIC); Code_JEDEC: MS-013-AC; Code_IPC: SOIC127P1030-20; ComponentLink1Description: Manufacturer URL; ComponentLink1URL: http://www.atmel.com/; ComponentLink2Description: ATtiny26(L) Datasheet; ComponentLink2URL: http://www.atmel.com/dyn/resources/prod_documents/doc1477.pdf; ComponentLink3Description: ATtiny26(L) Summary; ComponentLink3URL: http://www.atmel.com/dyn/resources/prod_documents/1477S.pdf
footprint 20S2_N (SOIC, 20-Leads, Body 12.8x7.5mm, Pitch 1.27mm, IPC Medium Density)
footprint 20S2_L (SOIC, 20-Leads, Body 12.8x7.5mm, Pitch 1.27mm, IPC High Density)
footprint 20S2_M (SOIC, 20-Leads, Body 12.8x7.5mm, Pitch 1.27mm, IPC Low Density)
pins: 1 PB0 (MOSI/DI/SDA/~{OC1A}) (io), 2 PB1 (MISO/DO/OC1A) (io), 3 PB2 (SCK/SCL/~{OC1B}) (io), 4 PB3 (OC1B) (io), 5 VCC (power), 6 GND (power), 7 PB4 (ADC7/XTAL1) (io), 8 PB5 (ADC8/XTAL2) (io), 9 PB6 (ADC9/INT0/T0) (io), 10 PB7 (ADC10/~{RESET}) (io), 11 PA7 (ADC6/AIN1) (io), 12 PA6 (ADC5/AIN0) (io), 13 PA5 (ADC4) (io), 14 PA4 (ADC3) (io), 15 AVCC (power), 16 GND (power), 17 PA3 (AREF) (io), 18 PA2 (ADC2) (io), 19 PA1 (ADC1) (io), 20 PA0 (ADC0) (io)

## ATtiny26-16SUR
designator U?
8-bit AVR Microcontroller, 4.5-5.5V, 16MHz, 2KB Flash, 128 Bytes EEPROM, 128 Bytes SRAM, 20-pin SOIC, Industrial Grade (-40°C to 85°C), Pb-Free, Reel; DatasheetVersion: revK, Aug-2010; PackageVersion: revB, Nov-2006; PackageReference: 20S2; PackageDescription: 20-lead, 0.300" Wide Body, Plastic Gull Wing Small Outline Package (SOIC); Code_JEDEC: MS-013-AC; Code_IPC: SOIC127P1030-20; ComponentLink1Description: Manufacturer URL; ComponentLink1URL: http://www.atmel.com/; ComponentLink2Description: ATtiny26(L) Datasheet; ComponentLink2URL: http://www.atmel.com/dyn/resources/prod_documents/doc1477.pdf; ComponentLink3Description: ATtiny26(L) Summary; ComponentLink3URL: http://www.atmel.com/dyn/resources/prod_documents/1477S.pdf
footprint 20S2_N (SOIC, 20-Leads, Body 12.8x7.5mm, Pitch 1.27mm, IPC Medium Density)
footprint 20S2_L (SOIC, 20-Leads, Body 12.8x7.5mm, Pitch 1.27mm, IPC High Density)
footprint 20S2_M (SOIC, 20-Leads, Body 12.8x7.5mm, Pitch 1.27mm, IPC Low Density)
pins: 1 PB0 (MOSI/DI/SDA/~{OC1A}) (io), 2 PB1 (MISO/DO/OC1A) (io), 3 PB2 (SCK/SCL/~{OC1B}) (io), 4 PB3 (OC1B) (io), 5 VCC (power), 6 GND (power), 7 PB4 (ADC7/XTAL1) (io), 8 PB5 (ADC8/XTAL2) (io), 9 PB6 (ADC9/INT0/T0) (io), 10 PB7 (ADC10/~{RESET}) (io), 11 PA7 (ADC6/AIN1) (io), 12 PA6 (ADC5/AIN0) (io), 13 PA5 (ADC4) (io), 14 PA4 (ADC3) (io), 15 AVCC (power), 16 GND (power), 17 PA3 (AREF) (io), 18 PA2 (ADC2) (io), 19 PA1 (ADC1) (io), 20 PA0 (ADC0) (io)

## ATtiny26L-8MC
designator U?
8-bit AVR Microcontroller, 2.7-5.5V, 2KB Flash, 128 Bytes EEPROM, 128 Bytes SRAM, 32-pin MLF, Commercial Grade (0°C to 70°C); DatasheetVersion: revJ, Jun-2007; PackageVersion: revE, May-2006; PackageReference: 32M1-A; PackageDescription: 32-Pin Micro Lead Frame Package (MLF),  5 x 5 x 1.0 mm Body, Pitch 0.50 mm, 3.10mm Exposed Pad; Code_JEDEC: MO-220-VHHD-2; ComponentLink1Description: Manufacturer URL; ComponentLink1URL: http://www.atmel.com/
footprint 32M1-A_N (QFN, 32-Leads, Body 5x5mm, Pitch 0.5mm, Thermal Pad 3.3x3.3mm, IPC Medium Density)
footprint 32M1-A_L (QFN, 32-Leads, Body 5x5mm, Pitch 0.5mm, Thermal Pad 3.3x3.3mm, IPC High Density)
footprint 32M1-A_M (QFN, 32-Leads, Body 5x5mm, Pitch 0.5mm, Thermal Pad 3.3x3.3mm, IPC Low Density)
part A pins: 2 PB3 (OC1B) (io), 4 VCC (power), 5 GND (power), 7 PB4 (ADC7/XTAL1) (io), 8 PB5 (ADC8/XTAL2) (io), 10 PB6 (ADC9/INT0/T0) (io), 11 PB7 (ADC10/~{RESET}) (io), 13 PA7 (ADC6/AIN1) (io), 14 PA6 (ADC5/AIN0) (io), 15 PA5 (ADC4) (io), 17 PA4 (ADC3) (io), 18 AVCC (power), 21 GND (power), 22 PA3 (AREF) (io), 23 PA2 (ADC2) (io), 25 PA1 (ADC1) (io), 26 PA0 (ADC0) (io), 30 PB0 (MOSI/DI/SDA/~{OC1A}) (io), 31 PB1 (MISO/DO/OC1A) (io), 32 PB2 (SCK/SCL/~{OC1B}) (io)
part B pins: 1 NC, 3 NC, 6 NC, 9 NC, 12 NC, 16 NC, 19 NC, 20 NC, 24 NC, 27 NC, 28 NC, 29 NC, 33 DAP (power)

## ATtiny26L-8MI
designator U?
8-bit AVR Microcontroller, 2.7-5.5V, 2KB Flash, 128 Bytes EEPROM, 128 Bytes SRAM, 32-pin MLF, Industrial Grade (-40°C to 85°C); DatasheetVersion: revJ, Jun-2007; PackageVersion: revE, May-2006; PackageReference: 32M1-A; PackageDescription: 32-Pin Micro Lead Frame Package (MLF),  5 x 5 x 1.0 mm Body, Pitch 0.50 mm, 3.10mm Exposed Pad; Code_JEDEC: MO-220-VHHD-2; ComponentLink1Description: Manufacturer URL; ComponentLink1URL: http://www.atmel.com/
footprint 32M1-A_N (QFN, 32-Leads, Body 5x5mm, Pitch 0.5mm, Thermal Pad 3.3x3.3mm, IPC Medium Density)
footprint 32M1-A_L (QFN, 32-Leads, Body 5x5mm, Pitch 0.5mm, Thermal Pad 3.3x3.3mm, IPC High Density)
footprint 32M1-A_M (QFN, 32-Leads, Body 5x5mm, Pitch 0.5mm, Thermal Pad 3.3x3.3mm, IPC Low Density)
part A pins: 2 PB3 (OC1B) (io), 4 VCC (power), 5 GND (power), 7 PB4 (ADC7/XTAL1) (io), 8 PB5 (ADC8/XTAL2) (io), 10 PB6 (ADC9/INT0/T0) (io), 11 PB7 (ADC10/~{RESET}) (io), 13 PA7 (ADC6/AIN1) (io), 14 PA6 (ADC5/AIN0) (io), 15 PA5 (ADC4) (io), 17 PA4 (ADC3) (io), 18 AVCC (power), 21 GND (power), 22 PA3 (AREF) (io), 23 PA2 (ADC2) (io), 25 PA1 (ADC1) (io), 26 PA0 (ADC0) (io), 30 PB0 (MOSI/DI/SDA/~{OC1A}) (io), 31 PB1 (MISO/DO/OC1A) (io), 32 PB2 (SCK/SCL/~{OC1B}) (io)
part B pins: 1 NC, 3 NC, 6 NC, 9 NC, 12 NC, 16 NC, 19 NC, 20 NC, 24 NC, 27 NC, 28 NC, 29 NC, 33 DAP (power)

## ATtiny26L-8MU
designator U?
8-bit AVR Microcontroller, 2.7-5.5V, 8MHz, 2KB Flash, 128 Bytes EEPROM, 128 Bytes SRAM, 32-pin MLF, Industrial Grade (-40°C to 85°C), Pb-Free; DatasheetVersion: revK, Aug-2010; PackageVersion: revE, May-2006; PackageReference: 32M1-A; PackageDescription: 32-Pin Micro Lead Frame Package (MLF),  5 x 5 x 1.0 mm Body, Pitch 0.50 mm, 3.10mm Exposed Pad; Code_JEDEC: MO-220-VHHD-2; ComponentLink1Description: Manufacturer URL; ComponentLink1URL: http://www.atmel.com/; ComponentLink2Description: ATtiny26(L) Datasheet; ComponentLink2URL: http://www.atmel.com/dyn/resources/prod_documents/doc1477.pdf; ComponentLink3Description: ATtiny26(L) Summary; ComponentLink3URL: http://www.atmel.com/dyn/resources/prod_documents/1477S.pdf
footprint 32M1-A_N (QFN, 32-Leads, Body 5x5mm, Pitch 0.5mm, Thermal Pad 3.3x3.3mm, IPC Medium Density)
footprint 32M1-A_L (QFN, 32-Leads, Body 5x5mm, Pitch 0.5mm, Thermal Pad 3.3x3.3mm, IPC High Density)
footprint 32M1-A_M (QFN, 32-Leads, Body 5x5mm, Pitch 0.5mm, Thermal Pad 3.3x3.3mm, IPC Low Density)
part A pins: 2 PB3 (OC1B) (io), 4 VCC (power), 5 GND (power), 7 PB4 (ADC7/XTAL1) (io), 8 PB5 (ADC8/XTAL2) (io), 10 PB6 (ADC9/INT0/T0) (io), 11 PB7 (ADC10/~{RESET}) (io), 13 PA7 (ADC6/AIN1) (io), 14 PA6 (ADC5/AIN0) (io), 15 PA5 (ADC4) (io), 17 PA4 (ADC3) (io), 18 AVCC (power), 21 GND (power), 22 PA3 (AREF) (io), 23 PA2 (ADC2) (io), 25 PA1 (ADC1) (io), 26 PA0 (ADC0) (io), 30 PB0 (MOSI/DI/SDA/~{OC1A}) (io), 31 PB1 (MISO/DO/OC1A) (io), 32 PB2 (SCK/SCL/~{OC1B}) (io)
part B pins: 1 NC, 3 NC, 6 NC, 9 NC, 12 NC, 16 NC, 19 NC, 20 NC, 24 NC, 27 NC, 28 NC, 29 NC, 33 DAP (power)

## ATtiny26L-8MUR
designator U?
8-bit AVR Microcontroller, 2.7-5.5V, 8MHz, 2KB Flash, 128 Bytes EEPROM, 128 Bytes SRAM, 32-pin MLF, Industrial Grade (-40°C to 85°C), Pb-Free, Reel; DatasheetVersion: revK, Aug-2010; PackageVersion: revE, May-2006; PackageReference: 32M1-A; PackageDescription: 32-Pin Micro Lead Frame Package (MLF),  5 x 5 x 1.0 mm Body, Pitch 0.50 mm, 3.10mm Exposed Pad; Code_JEDEC: MO-220-VHHD-2; ComponentLink1Description: Manufacturer URL; ComponentLink1URL: http://www.atmel.com/; ComponentLink2Description: ATtiny26(L) Datasheet; ComponentLink2URL: http://www.atmel.com/dyn/resources/prod_documents/doc1477.pdf; ComponentLink3Description: ATtiny26(L) Summary; ComponentLink3URL: http://www.atmel.com/dyn/resources/prod_documents/1477S.pdf
footprint 32M1-A_N (QFN, 32-Leads, Body 5x5mm, Pitch 0.5mm, Thermal Pad 3.3x3.3mm, IPC Medium Density)
footprint 32M1-A_L (QFN, 32-Leads, Body 5x5mm, Pitch 0.5mm, Thermal Pad 3.3x3.3mm, IPC High Density)
footprint 32M1-A_M (QFN, 32-Leads, Body 5x5mm, Pitch 0.5mm, Thermal Pad 3.3x3.3mm, IPC Low Density)
part A pins: 2 PB3 (OC1B) (io), 4 VCC (power), 5 GND (power), 7 PB4 (ADC7/XTAL1) (io), 8 PB5 (ADC8/XTAL2) (io), 10 PB6 (ADC9/INT0/T0) (io), 11 PB7 (ADC10/~{RESET}) (io), 13 PA7 (ADC6/AIN1) (io), 14 PA6 (ADC5/AIN0) (io), 15 PA5 (ADC4) (io), 17 PA4 (ADC3) (io), 18 AVCC (power), 21 GND (power), 22 PA3 (AREF) (io), 23 PA2 (ADC2) (io), 25 PA1 (ADC1) (io), 26 PA0 (ADC0) (io), 30 PB0 (MOSI/DI/SDA/~{OC1A}) (io), 31 PB1 (MISO/DO/OC1A) (io), 32 PB2 (SCK/SCL/~{OC1B}) (io)
part B pins: 1 NC, 3 NC, 6 NC, 9 NC, 12 NC, 16 NC, 19 NC, 20 NC, 24 NC, 27 NC, 28 NC, 29 NC, 33 DAP (power)

## ATtiny26L-8PC
designator U?
8-bit AVR Microcontroller, 2.7-5.5V, 2KB Flash, 128 Bytes EEPROM, 128 Bytes SRAM, 20-pin PDIP, Commercial Grade (0°C to 70°C); DatasheetVersion: revJ, Jun-2007; PackageVersion: revD, Oct-2010; PackageReference: 20P3; PackageDescription: 20-lead (0.300"/7.62mm Wide) Plastic Dual Inline Package (PDIP); Code_JEDEC: MS-001-AD; ComponentLink1Description: Manufacturer URL; ComponentLink1URL: http://www.atmel.com/
footprint 20P3 (DIP, 20-Leads, Row Spacing 7.62mm, Pitch 2.54mm, Body 25.9x6.61mm)
pins: 1 PB0 (MOSI/DI/SDA/~{OC1A}) (io), 2 PB1 (MISO/DO/OC1A) (io), 3 PB2 (SCK/SCL/~{OC1B}) (io), 4 PB3 (OC1B) (io), 5 VCC (power), 6 GND (power), 7 PB4 (ADC7/XTAL1) (io), 8 PB5 (ADC8/XTAL2) (io), 9 PB6 (ADC9/INT0/T0) (io), 10 PB7 (ADC10/~{RESET}) (io), 11 PA7 (ADC6/AIN1) (io), 12 PA6 (ADC5/AIN0) (io), 13 PA5 (ADC4) (io), 14 PA4 (ADC3) (io), 15 AVCC (power), 16 GND (power), 17 PA3 (AREF) (io), 18 PA2 (ADC2) (io), 19 PA1 (ADC1) (io), 20 PA0 (ADC0) (io)

## ATtiny26L-8PI
designator U?
8-bit AVR Microcontroller, 2.7-5.5V, 2KB Flash, 128 Bytes EEPROM, 128 Bytes SRAM, 20-pin PDIP, Industrial Grade (-40°C to 85°C); DatasheetVersion: revJ, Jun-2007; PackageVersion: revD, Oct-2010; PackageReference: 20P3; PackageDescription: 20-lead (0.300"/7.62mm Wide) Plastic Dual Inline Package (PDIP); Code_JEDEC: MS-001-AD; ComponentLink1Description: Manufacturer URL; ComponentLink1URL: http://www.atmel.com/
footprint 20P3 (DIP, 20-Leads, Row Spacing 7.62mm, Pitch 2.54mm, Body 25.9x6.61mm)
pins: 1 PB0 (MOSI/DI/SDA/~{OC1A}) (io), 2 PB1 (MISO/DO/OC1A) (io), 3 PB2 (SCK/SCL/~{OC1B}) (io), 4 PB3 (OC1B) (io), 5 VCC (power), 6 GND (power), 7 PB4 (ADC7/XTAL1) (io), 8 PB5 (ADC8/XTAL2) (io), 9 PB6 (ADC9/INT0/T0) (io), 10 PB7 (ADC10/~{RESET}) (io), 11 PA7 (ADC6/AIN1) (io), 12 PA6 (ADC5/AIN0) (io), 13 PA5 (ADC4) (io), 14 PA4 (ADC3) (io), 15 AVCC (power), 16 GND (power), 17 PA3 (AREF) (io), 18 PA2 (ADC2) (io), 19 PA1 (ADC1) (io), 20 PA0 (ADC0) (io)

## ATtiny26L-8PU
designator U?
8-bit AVR Microcontroller, 2.7-5.5V, 8MHz, 2KB Flash, 128 Bytes EEPROM, 128 Bytes SRAM, 20-pin PDIP, Industrial Grade (-40°C to 85°C), Pb-Free; DatasheetVersion: revK, Aug-2010; PackageVersion: revD, Oct-2010; PackageReference: 20P3; PackageDescription: 20-lead (0.300"/7.62mm Wide) Plastic Dual Inline Package (PDIP); Code_JEDEC: MS-001-AD; ComponentLink1Description: Manufacturer URL; ComponentLink1URL: http://www.atmel.com/; ComponentLink2Description: ATtiny26(L) Datasheet; ComponentLink2URL: http://www.atmel.com/dyn/resources/prod_documents/doc1477.pdf; ComponentLink3Description: ATtiny26(L) Summary; ComponentLink3URL: http://www.atmel.com/dyn/resources/prod_documents/1477S.pdf
footprint 20P3 (DIP, 20-Leads, Row Spacing 7.62mm, Pitch 2.54mm, Body 25.9x6.61mm)
pins: 1 PB0 (MOSI/DI/SDA/~{OC1A}) (io), 2 PB1 (MISO/DO/OC1A) (io), 3 PB2 (SCK/SCL/~{OC1B}) (io), 4 PB3 (OC1B) (io), 5 VCC (power), 6 GND (power), 7 PB4 (ADC7/XTAL1) (io), 8 PB5 (ADC8/XTAL2) (io), 9 PB6 (ADC9/INT0/T0) (io), 10 PB7 (ADC10/~{RESET}) (io), 11 PA7 (ADC6/AIN1) (io), 12 PA6 (ADC5/AIN0) (io), 13 PA5 (ADC4) (io), 14 PA4 (ADC3) (io), 15 AVCC (power), 16 GND (power), 17 PA3 (AREF) (io), 18 PA2 (ADC2) (io), 19 PA1 (ADC1) (io), 20 PA0 (ADC0) (io)

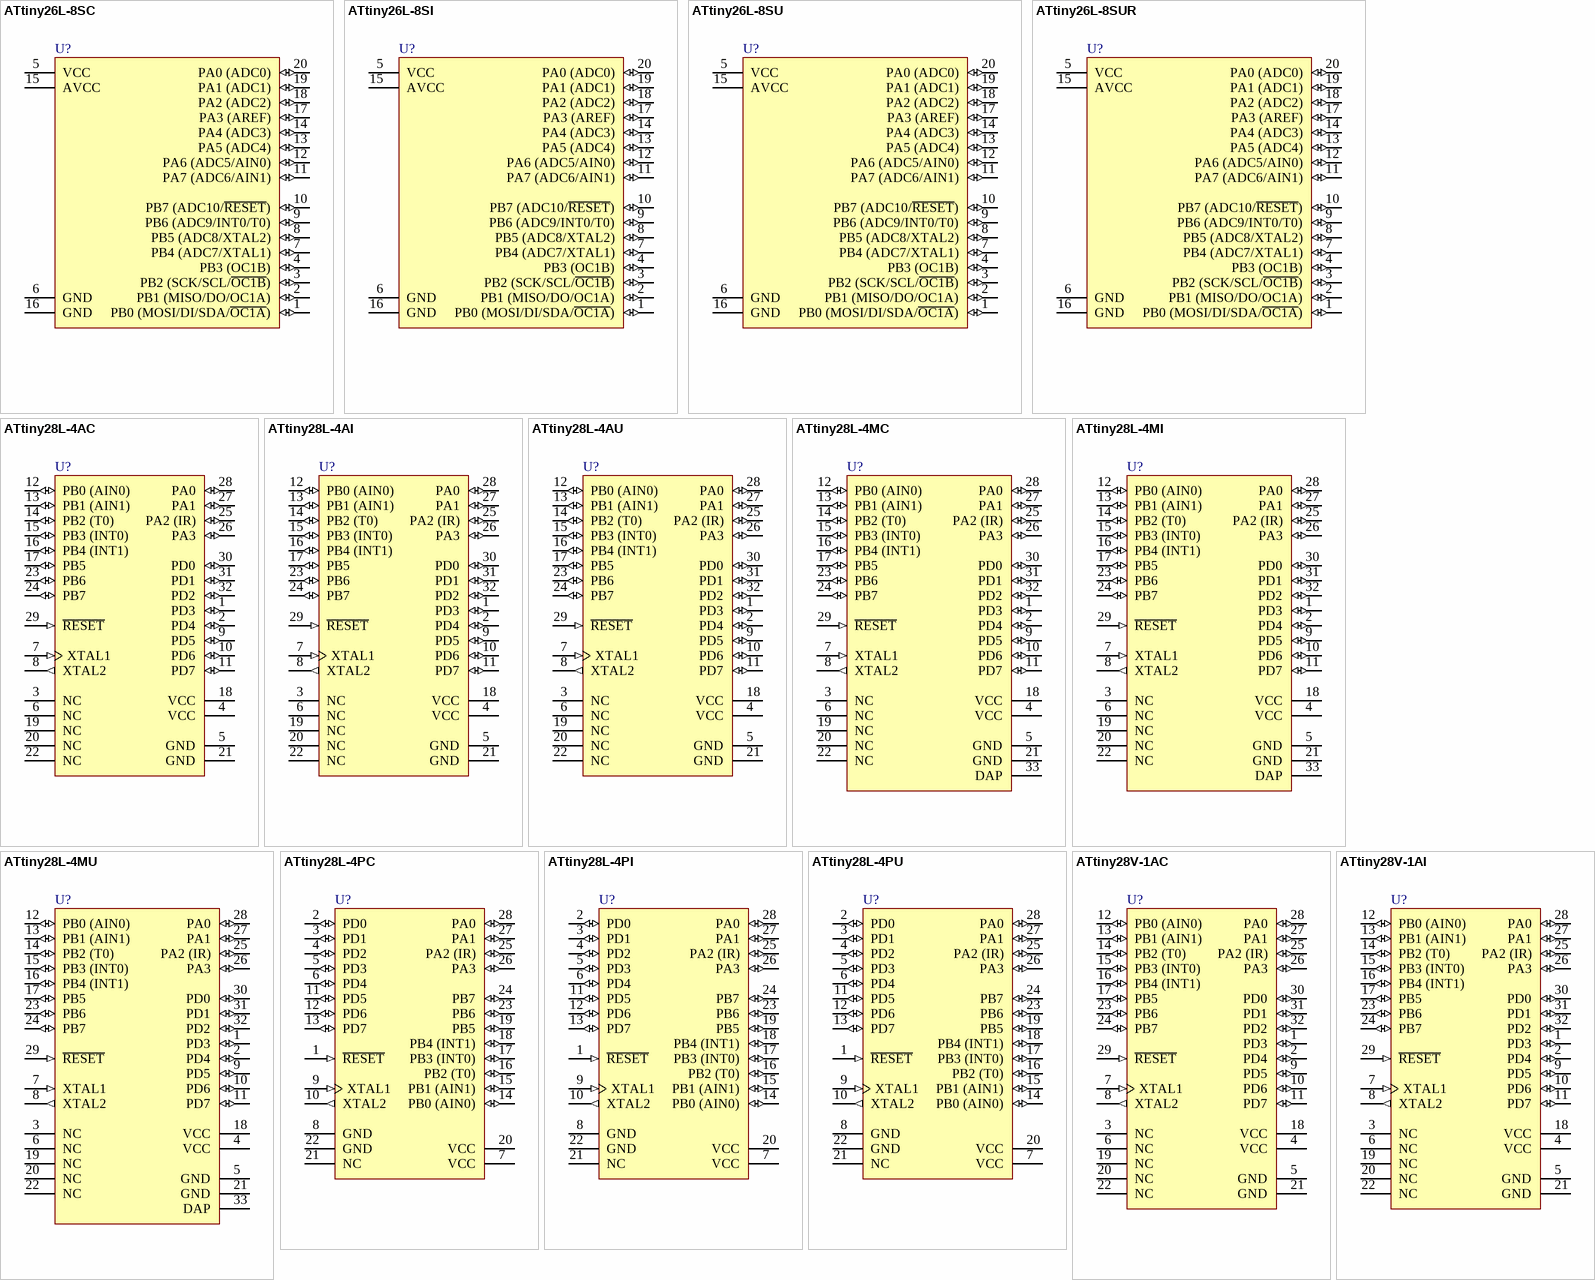
[diagram p9: symbols ATtiny26L-8SC to ATtiny28V-1AI]

## ATtiny26L-8SC
designator U?
8-bit AVR Microcontroller, 2.7-5.5V, 2KB Flash, 128 Bytes EEPROM, 128 Bytes SRAM, 20-pin SOIC, Commercial Grade (0°C to 70°C); DatasheetVersion: revJ, Jun-2007; PackageVersion: revB, Nov-2006; PackageReference: 20S2; PackageDescription: 20-lead, 0.300" Wide Body, Plastic Gull Wing Small Outline Package (SOIC); Code_JEDEC: MS-013-AC; Code_IPC: SOIC127P1030-20; ComponentLink1Description: Manufacturer URL; ComponentLink1URL: http://www.atmel.com/
footprint 20S2_N (SOIC, 20-Leads, Body 12.8x7.5mm, Pitch 1.27mm, IPC Medium Density)
footprint 20S2_L (SOIC, 20-Leads, Body 12.8x7.5mm, Pitch 1.27mm, IPC High Density)
footprint 20S2_M (SOIC, 20-Leads, Body 12.8x7.5mm, Pitch 1.27mm, IPC Low Density)
pins: 1 PB0 (MOSI/DI/SDA/~{OC1A}) (io), 2 PB1 (MISO/DO/OC1A) (io), 3 PB2 (SCK/SCL/~{OC1B}) (io), 4 PB3 (OC1B) (io), 5 VCC (power), 6 GND (power), 7 PB4 (ADC7/XTAL1) (io), 8 PB5 (ADC8/XTAL2) (io), 9 PB6 (ADC9/INT0/T0) (io), 10 PB7 (ADC10/~{RESET}) (io), 11 PA7 (ADC6/AIN1) (io), 12 PA6 (ADC5/AIN0) (io), 13 PA5 (ADC4) (io), 14 PA4 (ADC3) (io), 15 AVCC (power), 16 GND (power), 17 PA3 (AREF) (io), 18 PA2 (ADC2) (io), 19 PA1 (ADC1) (io), 20 PA0 (ADC0) (io)

## ATtiny26L-8SI
designator U?
8-bit AVR Microcontroller, 2.7-5.5V, 2KB Flash, 128 Bytes EEPROM, 128 Bytes SRAM, 20-pin SOIC, Industrial Grade (-40°C to 85°C); DatasheetVersion: revJ, Jun-2007; PackageVersion: revB, Nov-2006; PackageReference: 20S2; PackageDescription: 20-lead, 0.300" Wide Body, Plastic Gull Wing Small Outline Package (SOIC); Code_JEDEC: MS-013-AC; Code_IPC: SOIC127P1030-20; ComponentLink1Description: Manufacturer URL; ComponentLink1URL: http://www.atmel.com/
footprint 20S2_N (SOIC, 20-Leads, Body 12.8x7.5mm, Pitch 1.27mm, IPC Medium Density)
footprint 20S2_L (SOIC, 20-Leads, Body 12.8x7.5mm, Pitch 1.27mm, IPC High Density)
footprint 20S2_M (SOIC, 20-Leads, Body 12.8x7.5mm, Pitch 1.27mm, IPC Low Density)
pins: 1 PB0 (MOSI/DI/SDA/~{OC1A}) (io), 2 PB1 (MISO/DO/OC1A) (io), 3 PB2 (SCK/SCL/~{OC1B}) (io), 4 PB3 (OC1B) (io), 5 VCC (power), 6 GND (power), 7 PB4 (ADC7/XTAL1) (io), 8 PB5 (ADC8/XTAL2) (io), 9 PB6 (ADC9/INT0/T0) (io), 10 PB7 (ADC10/~{RESET}) (io), 11 PA7 (ADC6/AIN1) (io), 12 PA6 (ADC5/AIN0) (io), 13 PA5 (ADC4) (io), 14 PA4 (ADC3) (io), 15 AVCC (power), 16 GND (power), 17 PA3 (AREF) (io), 18 PA2 (ADC2) (io), 19 PA1 (ADC1) (io), 20 PA0 (ADC0) (io)

## ATtiny26L-8SU
designator U?
8-bit AVR Microcontroller, 2.7-5.5V, 8MHz, 2KB Flash, 128 Bytes EEPROM, 128 Bytes SRAM, 20-pin SOIC, Industrial Grade (-40°C to 85°C), Pb-Free; DatasheetVersion: revK, Aug-2010; PackageVersion: revB, Nov-2006; PackageReference: 20S2; PackageDescription: 20-lead, 0.300" Wide Body, Plastic Gull Wing Small Outline Package (SOIC); Code_JEDEC: MS-013-AC; Code_IPC: SOIC127P1030-20; ComponentLink1Description: Manufacturer URL; ComponentLink1URL: http://www.atmel.com/; ComponentLink2Description: ATtiny26(L) Datasheet; ComponentLink2URL: http://www.atmel.com/dyn/resources/prod_documents/doc1477.pdf; ComponentLink3Description: ATtiny26(L) Summary; ComponentLink3URL: http://www.atmel.com/dyn/resources/prod_documents/1477S.pdf
footprint 20S2_N (SOIC, 20-Leads, Body 12.8x7.5mm, Pitch 1.27mm, IPC Medium Density)
footprint 20S2_L (SOIC, 20-Leads, Body 12.8x7.5mm, Pitch 1.27mm, IPC High Density)
footprint 20S2_M (SOIC, 20-Leads, Body 12.8x7.5mm, Pitch 1.27mm, IPC Low Density)
pins: 1 PB0 (MOSI/DI/SDA/~{OC1A}) (io), 2 PB1 (MISO/DO/OC1A) (io), 3 PB2 (SCK/SCL/~{OC1B}) (io), 4 PB3 (OC1B) (io), 5 VCC (power), 6 GND (power), 7 PB4 (ADC7/XTAL1) (io), 8 PB5 (ADC8/XTAL2) (io), 9 PB6 (ADC9/INT0/T0) (io), 10 PB7 (ADC10/~{RESET}) (io), 11 PA7 (ADC6/AIN1) (io), 12 PA6 (ADC5/AIN0) (io), 13 PA5 (ADC4) (io), 14 PA4 (ADC3) (io), 15 AVCC (power), 16 GND (power), 17 PA3 (AREF) (io), 18 PA2 (ADC2) (io), 19 PA1 (ADC1) (io), 20 PA0 (ADC0) (io)